# Altium integrated library Lattice CPLD ispMACH.IntLib: 663 symbols (part 40 of 48)
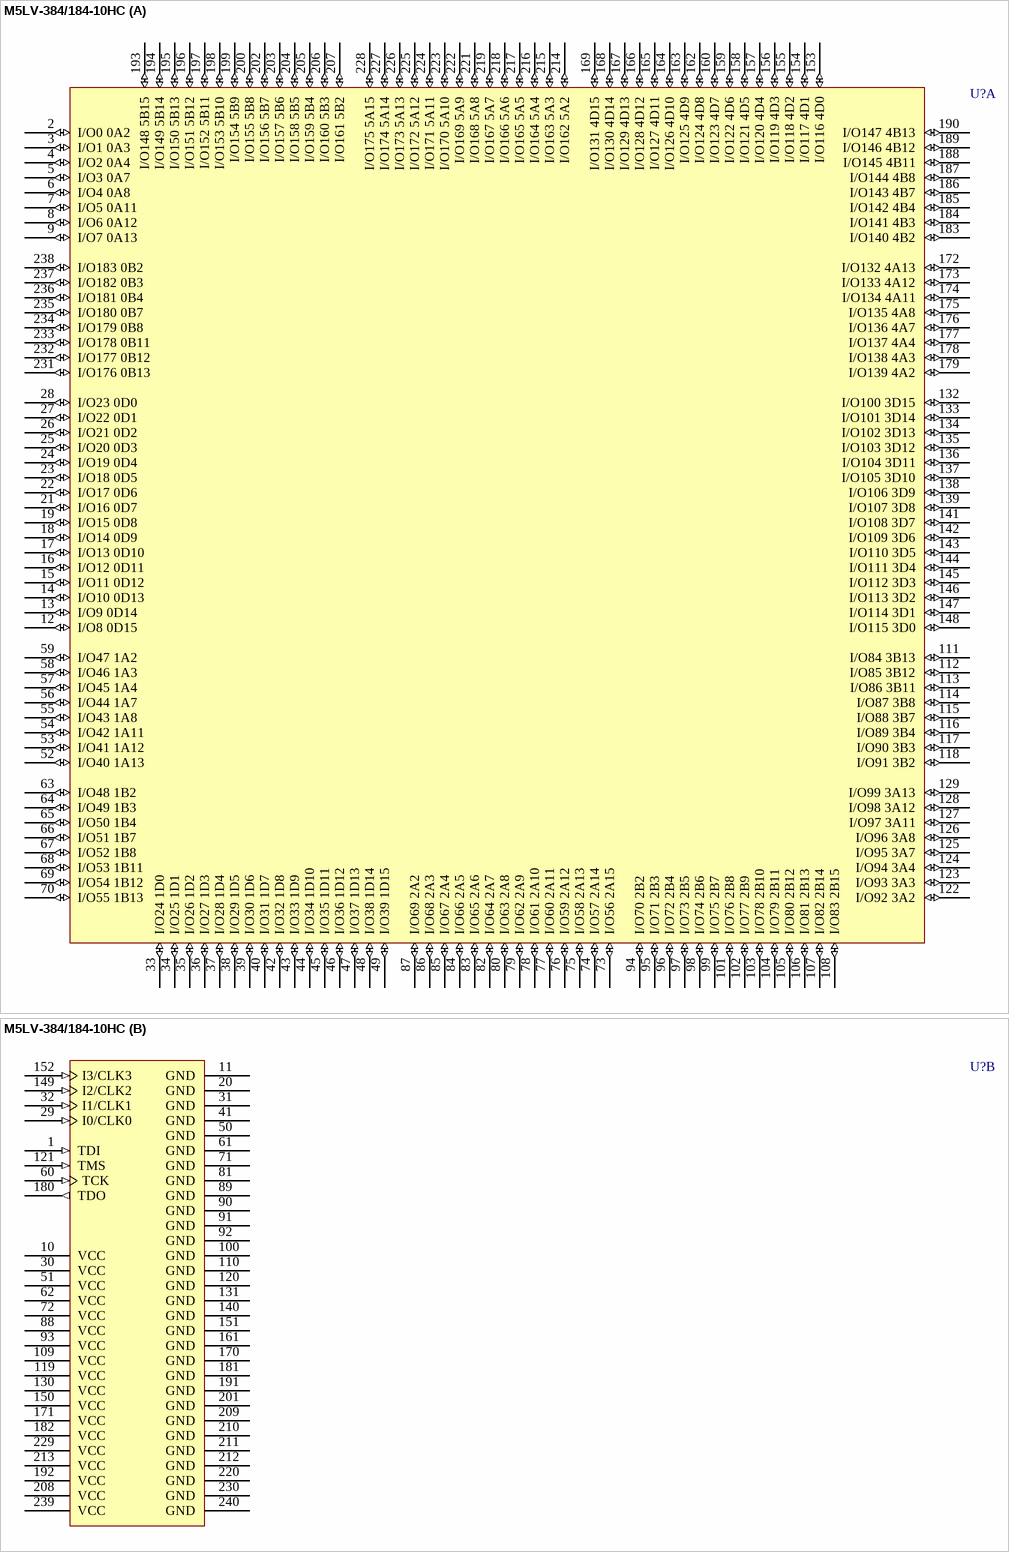
[diagram p345: symbol M5LV-384/184-10HC]

## M5LV-384/184-10HC
designator U?
High-Density and High-I/O Complex PLD; Published: 23-Sep-2002; LatestRevisionDate: 13-Apr-2006; LatestRevisionNote: IPC-7351 Footprint Added.; DatasheetVersion: Sep-2000; PackageVersion: pkg_32, Aug-2005; PackageReference: PQFP240; Publisher: Altium Limited; PackageDescription: 240-Pin Shrink Quad Flat Pack 0.5 mm Pitch; ComponentLink1Description: Manufacturer Link; ComponentLink1URL: http://www.latticesemi.com/products/mature/index.cfm; ComponentLink2Description: Datasheet; ComponentLink2URL: http://www.latticesemi.com/lit/docs/datasheets/cpld/mach5.pdf
footprint PQFP240_N (Shrink QFP, 240-Leads, Body 32x32mm, Pitch 0.5mm, IPC Medium Density)
footprint PQFP240_L (Shrink QFP, 240-Leads, Body 32x32mm, Pitch 0.5mm, IPC High Density)
footprint PQFP240_M (Shrink QFP, 240-Leads, Body 32x32mm, Pitch 0.5mm, IPC Low Density)
3D model M5LV-PQFP240 (240-Pin Shrink Quad Flat Pack 0.5 mm Pitch)
part A pins: 2 I/O0 0A2 (io), 3 I/O1 0A3 (io), 4 I/O2 0A4 (io), 5 I/O3 0A7 (io), 6 I/O4 0A8 (io), 7 I/O5 0A11 (io), 8 I/O6 0A12 (io), 9 I/O7 0A13 (io), 12 I/O8 0D15 (io), 13 I/O9 0D14 (io), 14 I/O10 0D13 (io), 15 I/O11 0D12 (io), 16 I/O12 0D11 (io), 17 I/O13 0D10 (io), 18 I/O14 0D9 (io), 19 I/O15 0D8 (io), 21 I/O16 0D7 (io), 22 I/O17 0D6 (io), 23 I/O18 0D5 (io), 24 I/O19 0D4 (io), 25 I/O20 0D3 (io), 26 I/O21 0D2 (io), 27 I/O22 0D1 (io), 28 I/O23 0D0 (io), 33 I/O24 1D0 (io), 34 I/O25 1D1 (io), 35 I/O26 1D2 (io), 36 I/O27 1D3 (io), 37 I/O28 1D4 (io), 38 I/O29 1D5 (io), 39 I/O30 1D6 (io), 40 I/O31 1D7 (io), 42 I/O32 1D8 (io), 43 I/O33 1D9 (io), 44 I/O34 1D10 (io), 45 I/O35 1D11 (io), 46 I/O36 1D12 (io), 47 I/O37 1D13 (io), 48 I/O38 1D14 (io), 49 I/O39 1D15 (io), 52 I/O40 1A13 (io), 53 I/O41 1A12 (io), 54 I/O42 1A11 (io), 55 I/O43 1A8 (io), 56 I/O44 1A7 (io), 57 I/O45 1A4 (io), 58 I/O46 1A3 (io), 59 I/O47 1A2 (io), 63 I/O48 1B2 (io), 64 I/O49 1B3 (io), 65 I/O50 1B4 (io), 66 I/O51 1B7 (io), 67 I/O52 1B8 (io), 68 I/O53 1B11 (io), 69 I/O54 1B12 (io), 70 I/O55 1B13 (io), 73 I/O56 2A15 (io), 74 I/O57 2A14 (io), 75 I/O58 2A13 (io), 76 I/O59 2A12 (io), 77 I/O60 2A11 (io), 78 I/O61 2A10 (io), 79 I/O62 2A9 (io), 80 I/O63 2A8 (io), 82 I/O64 2A7 (io), 83 I/O65 2A6 (io), 84 I/O66 2A5 (io), 85 I/O67 2A4 (io), 86 I/O68 2A3 (io), 87 I/O69 2A2 (io), 94 I/O70 2B2 (io), 95 I/O71 2B3 (io), 96 I/O72 2B4 (io), 97 I/O73 2B5 (io), 98 I/O74 2B6 (io), 99 I/O75 2B7 (io), 101 I/O76 2B8 (io), 102 I/O77 2B9 (io), 103 I/O78 2B10 (io), 104 I/O79 2B11 (io), 105 I/O80 2B12 (io), 106 I/O81 2B13 (io), 107 I/O82 2B14 (io), 108 I/O83 2B15 (io), 111 I/O84 3B13 (io), 112 I/O85 3B12 (io), 113 I/O86 3B11 (io), 114 I/O87 3B8 (io), 115 I/O88 3B7 (io), 116 I/O89 3B4 (io), 117 I/O90 3B3 (io), 118 I/O91 3B2 (io), 122 I/O92 3A2 (io), 123 I/O93 3A3 (io), 124 I/O94 3A4 (io), 125 I/O95 3A7 (io), 126 I/O96 3A8 (io), 127 I/O97 3A11 (io), 128 I/O98 3A12 (io), 129 I/O99 3A13 (io), 132 I/O100 3D15 (io), 133 I/O101 3D14 (io), 134 I/O102 3D13 (io), 135 I/O103 3D12 (io), 136 I/O104 3D11 (io), 137 I/O105 3D10 (io), 138 I/O106 3D9 (io), 139 I/O107 3D8 (io), 141 I/O108 3D7 (io), 142 I/O109 3D6 (io), 143 I/O110 3D5 (io), 144 I/O111 3D4 (io), 145 I/O112 3D3 (io), 146 I/O113 3D2 (io), 147 I/O114 3D1 (io), 148 I/O115 3D0 (io), 153 I/O116 4D0 (io), 154 I/O117 4D1 (io), 155 I/O118 4D2 (io), 156 I/O119 4D3 (io), 157 I/O120 4D4 (io), 158 I/O121 4D5 (io), 159 I/O122 4D6 (io), 160 I/O123 4D7 (io), 162 I/O124 4D8 (io), 163 I/O125 4D9 (io), 164 I/O126 4D10 (io), 165 I/O127 4D11 (io), 166 I/O128 4D12 (io), 167 I/O129 4D13 (io), 168 I/O130 4D14 (io), 169 I/O131 4D15 (io), 172 I/O132 4A13 (io), 173 I/O133 4A12 (io), 174 I/O134 4A11 (io), 175 I/O135 4A8 (io), 176 I/O136 4A7 (io), 177 I/O137 4A4 (io), 178 I/O138 4A3 (io), 179 I/O139 4A2 (io), 183 I/O140 4B2 (io), 184 I/O141 4B3 (io), 185 I/O142 4B4 (io), 186 I/O143 4B7 (io), 187 I/O144 4B8 (io), 188 I/O145 4B11 (io), 189 I/O146 4B12 (io), 190 I/O147 4B13 (io), 193 I/O148 5B15 (io), 194 I/O149 5B14 (io), 195 I/O150 5B13 (io), 196 I/O151 5B12 (io), 197 I/O152 5B11 (io), 198 I/O153 5B10 (io), 199 I/O154 5B9 (io), 200 I/O155 5B8 (io), 202 I/O156 5B7 (io), 203 I/O157 5B6 (io), 204 I/O158 5B5 (io), 205 I/O159 5B4 (io), 206 I/O160 5B3 (io), 207 I/O161 5B2 (io), 214 I/O162 5A2 (io), 215 I/O163 5A3 (io), 216 I/O164 5A4 (io), 217 I/O165 5A5 (io), 218 I/O166 5A6 (io), 219 I/O167 5A7 (io), 221 I/O168 5A8 (io), 222 I/O169 5A9 (io), 223 I/O170 5A10 (io), 224 I/O171 5A11 (io), 225 I/O172 5A12 (io), 226 I/O173 5A13 (io), 227 I/O174 5A14 (io), 228 I/O175 5A15 (io), 231 I/O176 0B13 (io), 232 I/O177 0B12 (io), 233 I/O178 0B11 (io), 234 I/O179 0B8 (io), 235 I/O180 0B7 (io), 236 I/O181 0B4 (io), 237 I/O182 0B3 (io), 238 I/O183 0B2 (io)
part B pins: 1 TDI (in), 10 VCC (power), 11 GND (power), 20 GND (power), 29 I0/CLK0 (in), 30 VCC (power), 31 GND (power), 32 I1/CLK1 (in), 41 GND (power), 50 GND (power), 51 VCC (power), 60 TCK (in), 61 GND (power), 62 VCC (power), 71 GND (power), 72 VCC (power), 81 GND (power), 88 VCC (power), 89 GND (power), 90 GND (power), 91 GND (power), 92 GND (power), 93 VCC (power), 100 GND (power), 109 VCC (power), 110 GND (power), 119 VCC (power), 120 GND (power), 121 TMS (in), 130 VCC (power), 131 GND (power), 140 GND (power), 149 I2/CLK2 (in), 150 VCC (power), 151 GND (power), 152 I3/CLK3 (in), 161 GND (power), 170 GND (power), 171 VCC (power), 180 TDO (out), 181 GND (power), 182 VCC (power), 191 GND (power), 192 VCC (power), 201 GND (power), 208 VCC (power), 209 GND (power), 210 GND (power), 211 GND (power), 212 GND (power), 213 VCC (power), 220 GND (power), 229 VCC (power), 230 GND (power), 239 VCC (power), 240 GND (power)

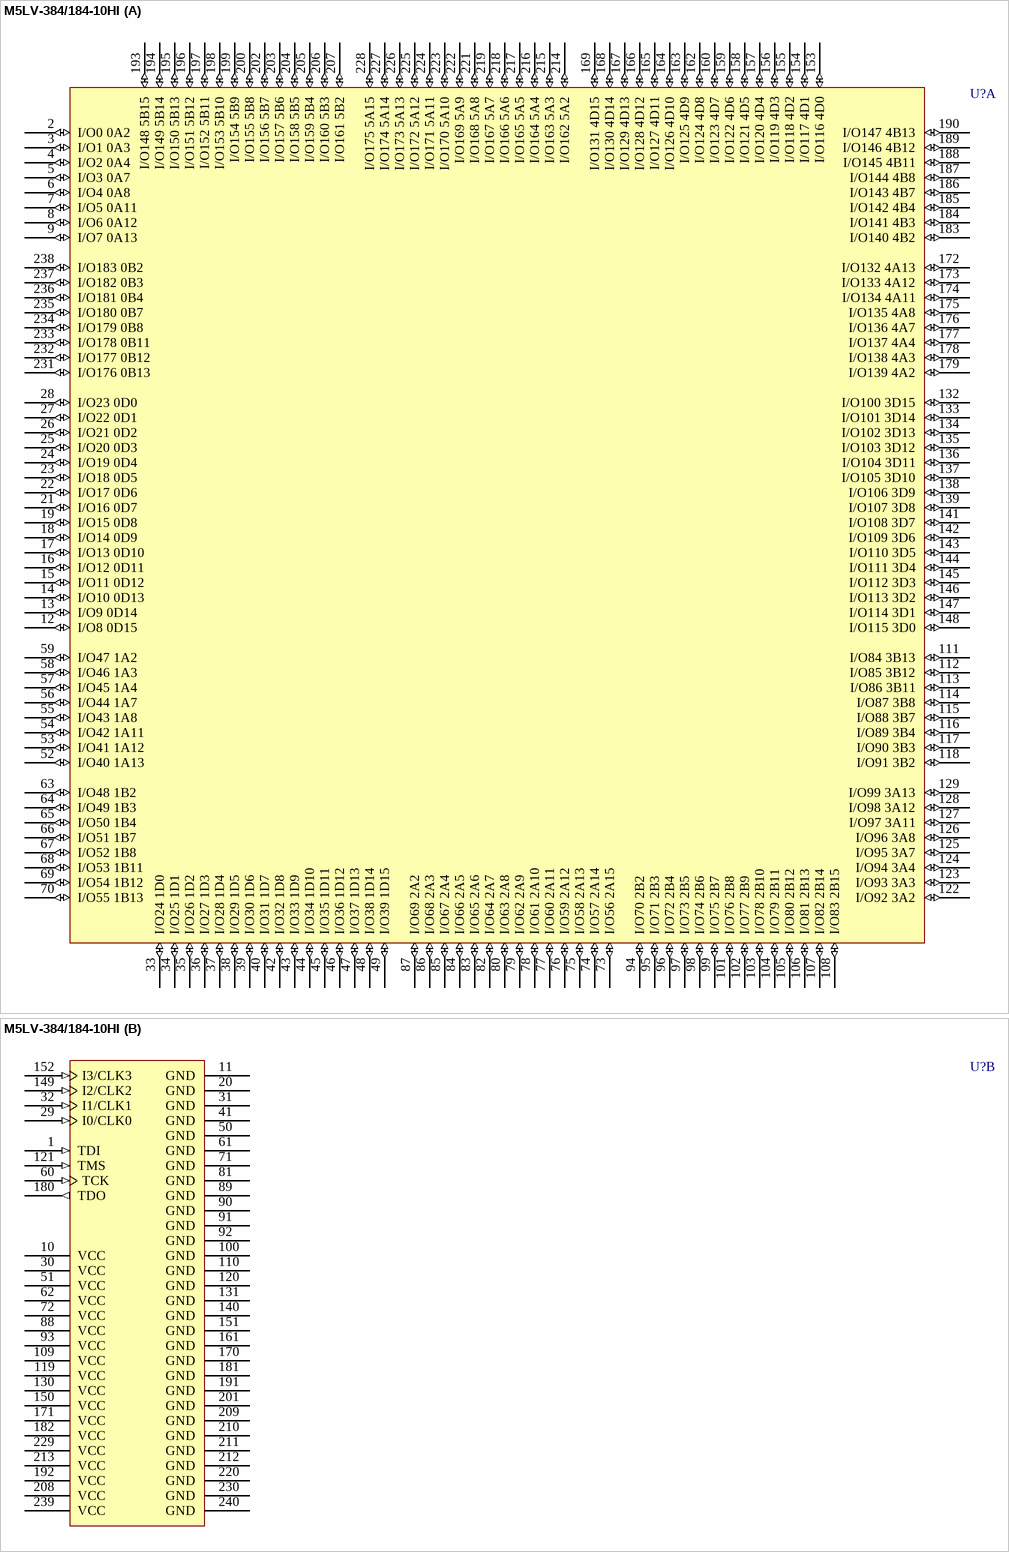
[diagram p245: symbol M5LV-384/184-10HI]

## M5LV-384/184-10HI
designator U?
High-Density and High-I/O Complex PLD; Published: 23-Sep-2002; LatestRevisionDate: 13-Apr-2006; LatestRevisionNote: IPC-7351 Footprint Added.; DatasheetVersion: Sep-2000; PackageVersion: pkg_32, Aug-2005; PackageReference: PQFP240; Publisher: Altium Limited; PackageDescription: 240-Pin Shrink Quad Flat Pack 0.5 mm Pitch; ComponentLink1Description: Manufacturer Link; ComponentLink1URL: http://www.latticesemi.com/products/mature/index.cfm; ComponentLink2Description: Datasheet; ComponentLink2URL: http://www.latticesemi.com/lit/docs/datasheets/cpld/mach5.pdf
footprint PQFP240_N (Shrink QFP, 240-Leads, Body 32x32mm, Pitch 0.5mm, IPC Medium Density)
footprint PQFP240_L (Shrink QFP, 240-Leads, Body 32x32mm, Pitch 0.5mm, IPC High Density)
footprint PQFP240_M (Shrink QFP, 240-Leads, Body 32x32mm, Pitch 0.5mm, IPC Low Density)
3D model M5LV-PQFP240 (240-Pin Shrink Quad Flat Pack 0.5 mm Pitch)
part A pins: 2 I/O0 0A2 (io), 3 I/O1 0A3 (io), 4 I/O2 0A4 (io), 5 I/O3 0A7 (io), 6 I/O4 0A8 (io), 7 I/O5 0A11 (io), 8 I/O6 0A12 (io), 9 I/O7 0A13 (io), 12 I/O8 0D15 (io), 13 I/O9 0D14 (io), 14 I/O10 0D13 (io), 15 I/O11 0D12 (io), 16 I/O12 0D11 (io), 17 I/O13 0D10 (io), 18 I/O14 0D9 (io), 19 I/O15 0D8 (io), 21 I/O16 0D7 (io), 22 I/O17 0D6 (io), 23 I/O18 0D5 (io), 24 I/O19 0D4 (io), 25 I/O20 0D3 (io), 26 I/O21 0D2 (io), 27 I/O22 0D1 (io), 28 I/O23 0D0 (io), 33 I/O24 1D0 (io), 34 I/O25 1D1 (io), 35 I/O26 1D2 (io), 36 I/O27 1D3 (io), 37 I/O28 1D4 (io), 38 I/O29 1D5 (io), 39 I/O30 1D6 (io), 40 I/O31 1D7 (io), 42 I/O32 1D8 (io), 43 I/O33 1D9 (io), 44 I/O34 1D10 (io), 45 I/O35 1D11 (io), 46 I/O36 1D12 (io), 47 I/O37 1D13 (io), 48 I/O38 1D14 (io), 49 I/O39 1D15 (io), 52 I/O40 1A13 (io), 53 I/O41 1A12 (io), 54 I/O42 1A11 (io), 55 I/O43 1A8 (io), 56 I/O44 1A7 (io), 57 I/O45 1A4 (io), 58 I/O46 1A3 (io), 59 I/O47 1A2 (io), 63 I/O48 1B2 (io), 64 I/O49 1B3 (io), 65 I/O50 1B4 (io), 66 I/O51 1B7 (io), 67 I/O52 1B8 (io), 68 I/O53 1B11 (io), 69 I/O54 1B12 (io), 70 I/O55 1B13 (io), 73 I/O56 2A15 (io), 74 I/O57 2A14 (io), 75 I/O58 2A13 (io), 76 I/O59 2A12 (io), 77 I/O60 2A11 (io), 78 I/O61 2A10 (io), 79 I/O62 2A9 (io), 80 I/O63 2A8 (io), 82 I/O64 2A7 (io), 83 I/O65 2A6 (io), 84 I/O66 2A5 (io), 85 I/O67 2A4 (io), 86 I/O68 2A3 (io), 87 I/O69 2A2 (io), 94 I/O70 2B2 (io), 95 I/O71 2B3 (io), 96 I/O72 2B4 (io), 97 I/O73 2B5 (io), 98 I/O74 2B6 (io), 99 I/O75 2B7 (io), 101 I/O76 2B8 (io), 102 I/O77 2B9 (io), 103 I/O78 2B10 (io), 104 I/O79 2B11 (io), 105 I/O80 2B12 (io), 106 I/O81 2B13 (io), 107 I/O82 2B14 (io), 108 I/O83 2B15 (io), 111 I/O84 3B13 (io), 112 I/O85 3B12 (io), 113 I/O86 3B11 (io), 114 I/O87 3B8 (io), 115 I/O88 3B7 (io), 116 I/O89 3B4 (io), 117 I/O90 3B3 (io), 118 I/O91 3B2 (io), 122 I/O92 3A2 (io), 123 I/O93 3A3 (io), 124 I/O94 3A4 (io), 125 I/O95 3A7 (io), 126 I/O96 3A8 (io), 127 I/O97 3A11 (io), 128 I/O98 3A12 (io), 129 I/O99 3A13 (io), 132 I/O100 3D15 (io), 133 I/O101 3D14 (io), 134 I/O102 3D13 (io), 135 I/O103 3D12 (io), 136 I/O104 3D11 (io), 137 I/O105 3D10 (io), 138 I/O106 3D9 (io), 139 I/O107 3D8 (io), 141 I/O108 3D7 (io), 142 I/O109 3D6 (io), 143 I/O110 3D5 (io), 144 I/O111 3D4 (io), 145 I/O112 3D3 (io), 146 I/O113 3D2 (io), 147 I/O114 3D1 (io), 148 I/O115 3D0 (io), 153 I/O116 4D0 (io), 154 I/O117 4D1 (io), 155 I/O118 4D2 (io), 156 I/O119 4D3 (io), 157 I/O120 4D4 (io), 158 I/O121 4D5 (io), 159 I/O122 4D6 (io), 160 I/O123 4D7 (io), 162 I/O124 4D8 (io), 163 I/O125 4D9 (io), 164 I/O126 4D10 (io), 165 I/O127 4D11 (io), 166 I/O128 4D12 (io), 167 I/O129 4D13 (io), 168 I/O130 4D14 (io), 169 I/O131 4D15 (io), 172 I/O132 4A13 (io), 173 I/O133 4A12 (io), 174 I/O134 4A11 (io), 175 I/O135 4A8 (io), 176 I/O136 4A7 (io), 177 I/O137 4A4 (io), 178 I/O138 4A3 (io), 179 I/O139 4A2 (io), 183 I/O140 4B2 (io), 184 I/O141 4B3 (io), 185 I/O142 4B4 (io), 186 I/O143 4B7 (io), 187 I/O144 4B8 (io), 188 I/O145 4B11 (io), 189 I/O146 4B12 (io), 190 I/O147 4B13 (io), 193 I/O148 5B15 (io), 194 I/O149 5B14 (io), 195 I/O150 5B13 (io), 196 I/O151 5B12 (io), 197 I/O152 5B11 (io), 198 I/O153 5B10 (io), 199 I/O154 5B9 (io), 200 I/O155 5B8 (io), 202 I/O156 5B7 (io), 203 I/O157 5B6 (io), 204 I/O158 5B5 (io), 205 I/O159 5B4 (io), 206 I/O160 5B3 (io), 207 I/O161 5B2 (io), 214 I/O162 5A2 (io), 215 I/O163 5A3 (io), 216 I/O164 5A4 (io), 217 I/O165 5A5 (io), 218 I/O166 5A6 (io), 219 I/O167 5A7 (io), 221 I/O168 5A8 (io), 222 I/O169 5A9 (io), 223 I/O170 5A10 (io), 224 I/O171 5A11 (io), 225 I/O172 5A12 (io), 226 I/O173 5A13 (io), 227 I/O174 5A14 (io), 228 I/O175 5A15 (io), 231 I/O176 0B13 (io), 232 I/O177 0B12 (io), 233 I/O178 0B11 (io), 234 I/O179 0B8 (io), 235 I/O180 0B7 (io), 236 I/O181 0B4 (io), 237 I/O182 0B3 (io), 238 I/O183 0B2 (io)
part B pins: 1 TDI (in), 10 VCC (power), 11 GND (power), 20 GND (power), 29 I0/CLK0 (in), 30 VCC (power), 31 GND (power), 32 I1/CLK1 (in), 41 GND (power), 50 GND (power), 51 VCC (power), 60 TCK (in), 61 GND (power), 62 VCC (power), 71 GND (power), 72 VCC (power), 81 GND (power), 88 VCC (power), 89 GND (power), 90 GND (power), 91 GND (power), 92 GND (power), 93 VCC (power), 100 GND (power), 109 VCC (power), 110 GND (power), 119 VCC (power), 120 GND (power), 121 TMS (in), 130 VCC (power), 131 GND (power), 140 GND (power), 149 I2/CLK2 (in), 150 VCC (power), 151 GND (power), 152 I3/CLK3 (in), 161 GND (power), 170 GND (power), 171 VCC (power), 180 TDO (out), 181 GND (power), 182 VCC (power), 191 GND (power), 192 VCC (power), 201 GND (power), 208 VCC (power), 209 GND (power), 210 GND (power), 211 GND (power), 212 GND (power), 213 VCC (power), 220 GND (power), 229 VCC (power), 230 GND (power), 239 VCC (power), 240 GND (power)

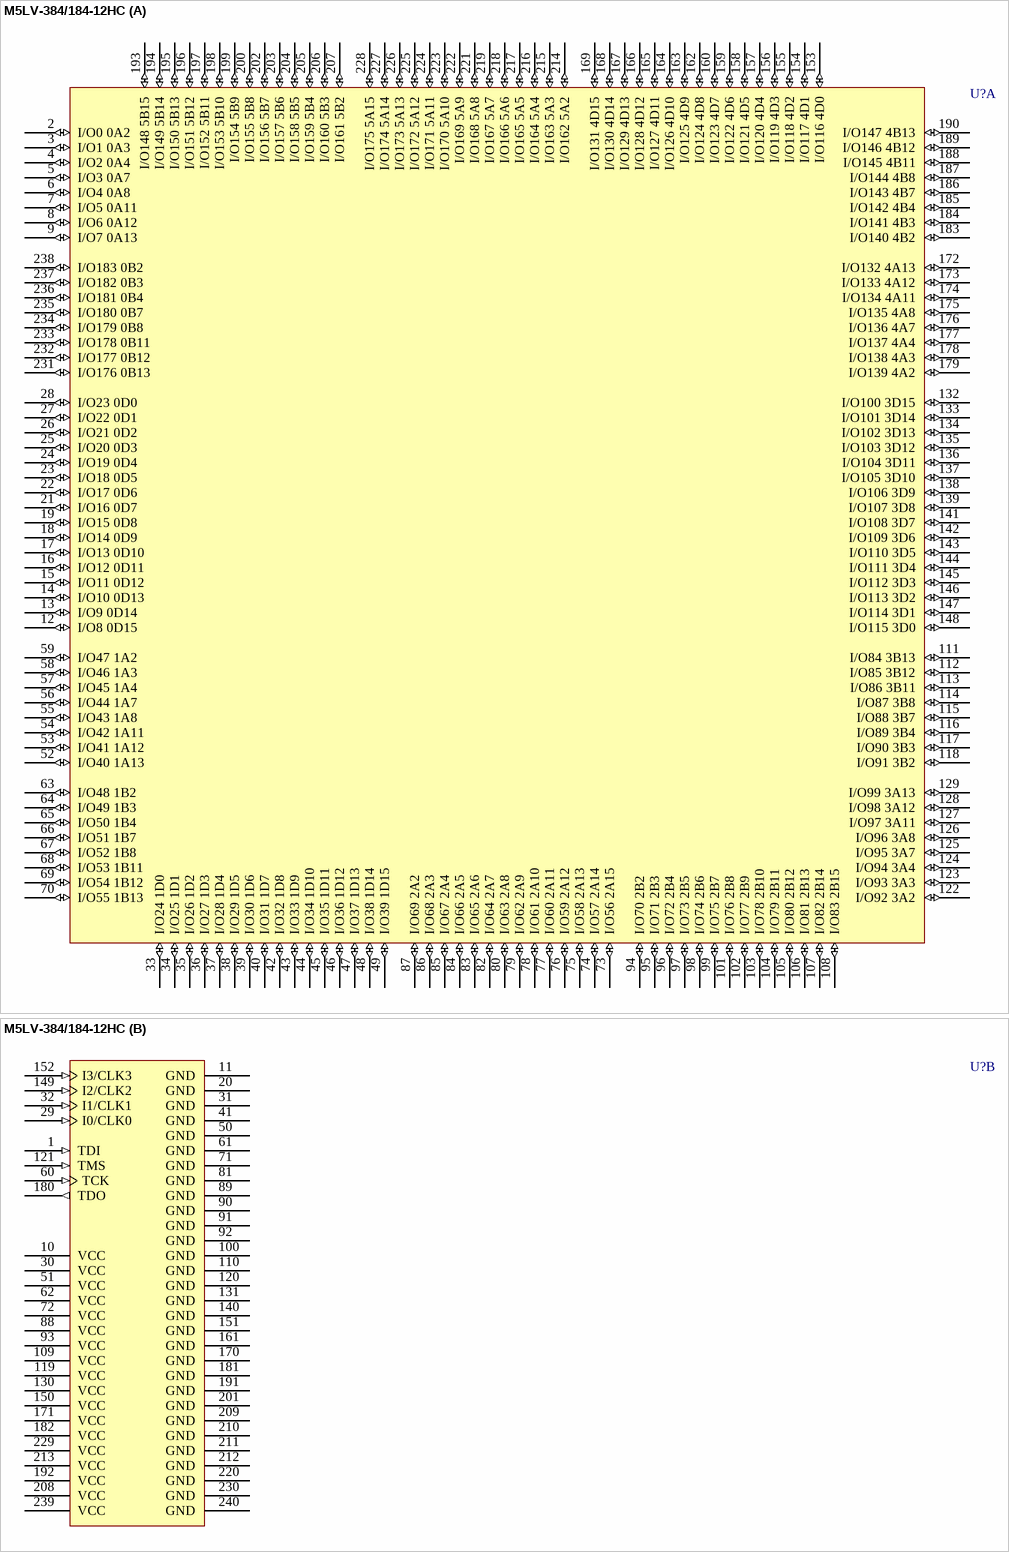
[diagram p246: symbol M5LV-384/184-12HC]

## M5LV-384/184-12HC
designator U?
High-Density and High-I/O Complex PLD; Published: 23-Sep-2002; LatestRevisionDate: 13-Apr-2006; LatestRevisionNote: IPC-7351 Footprint Added.; DatasheetVersion: Sep-2000; PackageVersion: pkg_32, Aug-2005; PackageReference: PQFP240; Publisher: Altium Limited; PackageDescription: 240-Pin Shrink Quad Flat Pack 0.5 mm Pitch; ComponentLink1Description: Manufacturer Link; ComponentLink1URL: http://www.latticesemi.com/products/mature/index.cfm; ComponentLink2Description: Datasheet; ComponentLink2URL: http://www.latticesemi.com/lit/docs/datasheets/cpld/mach5.pdf
footprint PQFP240_N (Shrink QFP, 240-Leads, Body 32x32mm, Pitch 0.5mm, IPC Medium Density)
footprint PQFP240_L (Shrink QFP, 240-Leads, Body 32x32mm, Pitch 0.5mm, IPC High Density)
footprint PQFP240_M (Shrink QFP, 240-Leads, Body 32x32mm, Pitch 0.5mm, IPC Low Density)
3D model M5LV-PQFP240 (240-Pin Shrink Quad Flat Pack 0.5 mm Pitch)
part A pins: 2 I/O0 0A2 (io), 3 I/O1 0A3 (io), 4 I/O2 0A4 (io), 5 I/O3 0A7 (io), 6 I/O4 0A8 (io), 7 I/O5 0A11 (io), 8 I/O6 0A12 (io), 9 I/O7 0A13 (io), 12 I/O8 0D15 (io), 13 I/O9 0D14 (io), 14 I/O10 0D13 (io), 15 I/O11 0D12 (io), 16 I/O12 0D11 (io), 17 I/O13 0D10 (io), 18 I/O14 0D9 (io), 19 I/O15 0D8 (io), 21 I/O16 0D7 (io), 22 I/O17 0D6 (io), 23 I/O18 0D5 (io), 24 I/O19 0D4 (io), 25 I/O20 0D3 (io), 26 I/O21 0D2 (io), 27 I/O22 0D1 (io), 28 I/O23 0D0 (io), 33 I/O24 1D0 (io), 34 I/O25 1D1 (io), 35 I/O26 1D2 (io), 36 I/O27 1D3 (io), 37 I/O28 1D4 (io), 38 I/O29 1D5 (io), 39 I/O30 1D6 (io), 40 I/O31 1D7 (io), 42 I/O32 1D8 (io), 43 I/O33 1D9 (io), 44 I/O34 1D10 (io), 45 I/O35 1D11 (io), 46 I/O36 1D12 (io), 47 I/O37 1D13 (io), 48 I/O38 1D14 (io), 49 I/O39 1D15 (io), 52 I/O40 1A13 (io), 53 I/O41 1A12 (io), 54 I/O42 1A11 (io), 55 I/O43 1A8 (io), 56 I/O44 1A7 (io), 57 I/O45 1A4 (io), 58 I/O46 1A3 (io), 59 I/O47 1A2 (io), 63 I/O48 1B2 (io), 64 I/O49 1B3 (io), 65 I/O50 1B4 (io), 66 I/O51 1B7 (io), 67 I/O52 1B8 (io), 68 I/O53 1B11 (io), 69 I/O54 1B12 (io), 70 I/O55 1B13 (io), 73 I/O56 2A15 (io), 74 I/O57 2A14 (io), 75 I/O58 2A13 (io), 76 I/O59 2A12 (io), 77 I/O60 2A11 (io), 78 I/O61 2A10 (io), 79 I/O62 2A9 (io), 80 I/O63 2A8 (io), 82 I/O64 2A7 (io), 83 I/O65 2A6 (io), 84 I/O66 2A5 (io), 85 I/O67 2A4 (io), 86 I/O68 2A3 (io), 87 I/O69 2A2 (io), 94 I/O70 2B2 (io), 95 I/O71 2B3 (io), 96 I/O72 2B4 (io), 97 I/O73 2B5 (io), 98 I/O74 2B6 (io), 99 I/O75 2B7 (io), 101 I/O76 2B8 (io), 102 I/O77 2B9 (io), 103 I/O78 2B10 (io), 104 I/O79 2B11 (io), 105 I/O80 2B12 (io), 106 I/O81 2B13 (io), 107 I/O82 2B14 (io), 108 I/O83 2B15 (io), 111 I/O84 3B13 (io), 112 I/O85 3B12 (io), 113 I/O86 3B11 (io), 114 I/O87 3B8 (io), 115 I/O88 3B7 (io), 116 I/O89 3B4 (io), 117 I/O90 3B3 (io), 118 I/O91 3B2 (io), 122 I/O92 3A2 (io), 123 I/O93 3A3 (io), 124 I/O94 3A4 (io), 125 I/O95 3A7 (io), 126 I/O96 3A8 (io), 127 I/O97 3A11 (io), 128 I/O98 3A12 (io), 129 I/O99 3A13 (io), 132 I/O100 3D15 (io), 133 I/O101 3D14 (io), 134 I/O102 3D13 (io), 135 I/O103 3D12 (io), 136 I/O104 3D11 (io), 137 I/O105 3D10 (io), 138 I/O106 3D9 (io), 139 I/O107 3D8 (io), 141 I/O108 3D7 (io), 142 I/O109 3D6 (io), 143 I/O110 3D5 (io), 144 I/O111 3D4 (io), 145 I/O112 3D3 (io), 146 I/O113 3D2 (io), 147 I/O114 3D1 (io), 148 I/O115 3D0 (io), 153 I/O116 4D0 (io), 154 I/O117 4D1 (io), 155 I/O118 4D2 (io), 156 I/O119 4D3 (io), 157 I/O120 4D4 (io), 158 I/O121 4D5 (io), 159 I/O122 4D6 (io), 160 I/O123 4D7 (io), 162 I/O124 4D8 (io), 163 I/O125 4D9 (io), 164 I/O126 4D10 (io), 165 I/O127 4D11 (io), 166 I/O128 4D12 (io), 167 I/O129 4D13 (io), 168 I/O130 4D14 (io), 169 I/O131 4D15 (io), 172 I/O132 4A13 (io), 173 I/O133 4A12 (io), 174 I/O134 4A11 (io), 175 I/O135 4A8 (io), 176 I/O136 4A7 (io), 177 I/O137 4A4 (io), 178 I/O138 4A3 (io), 179 I/O139 4A2 (io), 183 I/O140 4B2 (io), 184 I/O141 4B3 (io), 185 I/O142 4B4 (io), 186 I/O143 4B7 (io), 187 I/O144 4B8 (io), 188 I/O145 4B11 (io), 189 I/O146 4B12 (io), 190 I/O147 4B13 (io), 193 I/O148 5B15 (io), 194 I/O149 5B14 (io), 195 I/O150 5B13 (io), 196 I/O151 5B12 (io), 197 I/O152 5B11 (io), 198 I/O153 5B10 (io), 199 I/O154 5B9 (io), 200 I/O155 5B8 (io), 202 I/O156 5B7 (io), 203 I/O157 5B6 (io), 204 I/O158 5B5 (io), 205 I/O159 5B4 (io), 206 I/O160 5B3 (io), 207 I/O161 5B2 (io), 214 I/O162 5A2 (io), 215 I/O163 5A3 (io), 216 I/O164 5A4 (io), 217 I/O165 5A5 (io), 218 I/O166 5A6 (io), 219 I/O167 5A7 (io), 221 I/O168 5A8 (io), 222 I/O169 5A9 (io), 223 I/O170 5A10 (io), 224 I/O171 5A11 (io), 225 I/O172 5A12 (io), 226 I/O173 5A13 (io), 227 I/O174 5A14 (io), 228 I/O175 5A15 (io), 231 I/O176 0B13 (io), 232 I/O177 0B12 (io), 233 I/O178 0B11 (io), 234 I/O179 0B8 (io), 235 I/O180 0B7 (io), 236 I/O181 0B4 (io), 237 I/O182 0B3 (io), 238 I/O183 0B2 (io)
part B pins: 1 TDI (in), 10 VCC (power), 11 GND (power), 20 GND (power), 29 I0/CLK0 (in), 30 VCC (power), 31 GND (power), 32 I1/CLK1 (in), 41 GND (power), 50 GND (power), 51 VCC (power), 60 TCK (in), 61 GND (power), 62 VCC (power), 71 GND (power), 72 VCC (power), 81 GND (power), 88 VCC (power), 89 GND (power), 90 GND (power), 91 GND (power), 92 GND (power), 93 VCC (power), 100 GND (power), 109 VCC (power), 110 GND (power), 119 VCC (power), 120 GND (power), 121 TMS (in), 130 VCC (power), 131 GND (power), 140 GND (power), 149 I2/CLK2 (in), 150 VCC (power), 151 GND (power), 152 I3/CLK3 (in), 161 GND (power), 170 GND (power), 171 VCC (power), 180 TDO (out), 181 GND (power), 182 VCC (power), 191 GND (power), 192 VCC (power), 201 GND (power), 208 VCC (power), 209 GND (power), 210 GND (power), 211 GND (power), 212 GND (power), 213 VCC (power), 220 GND (power), 229 VCC (power), 230 GND (power), 239 VCC (power), 240 GND (power)

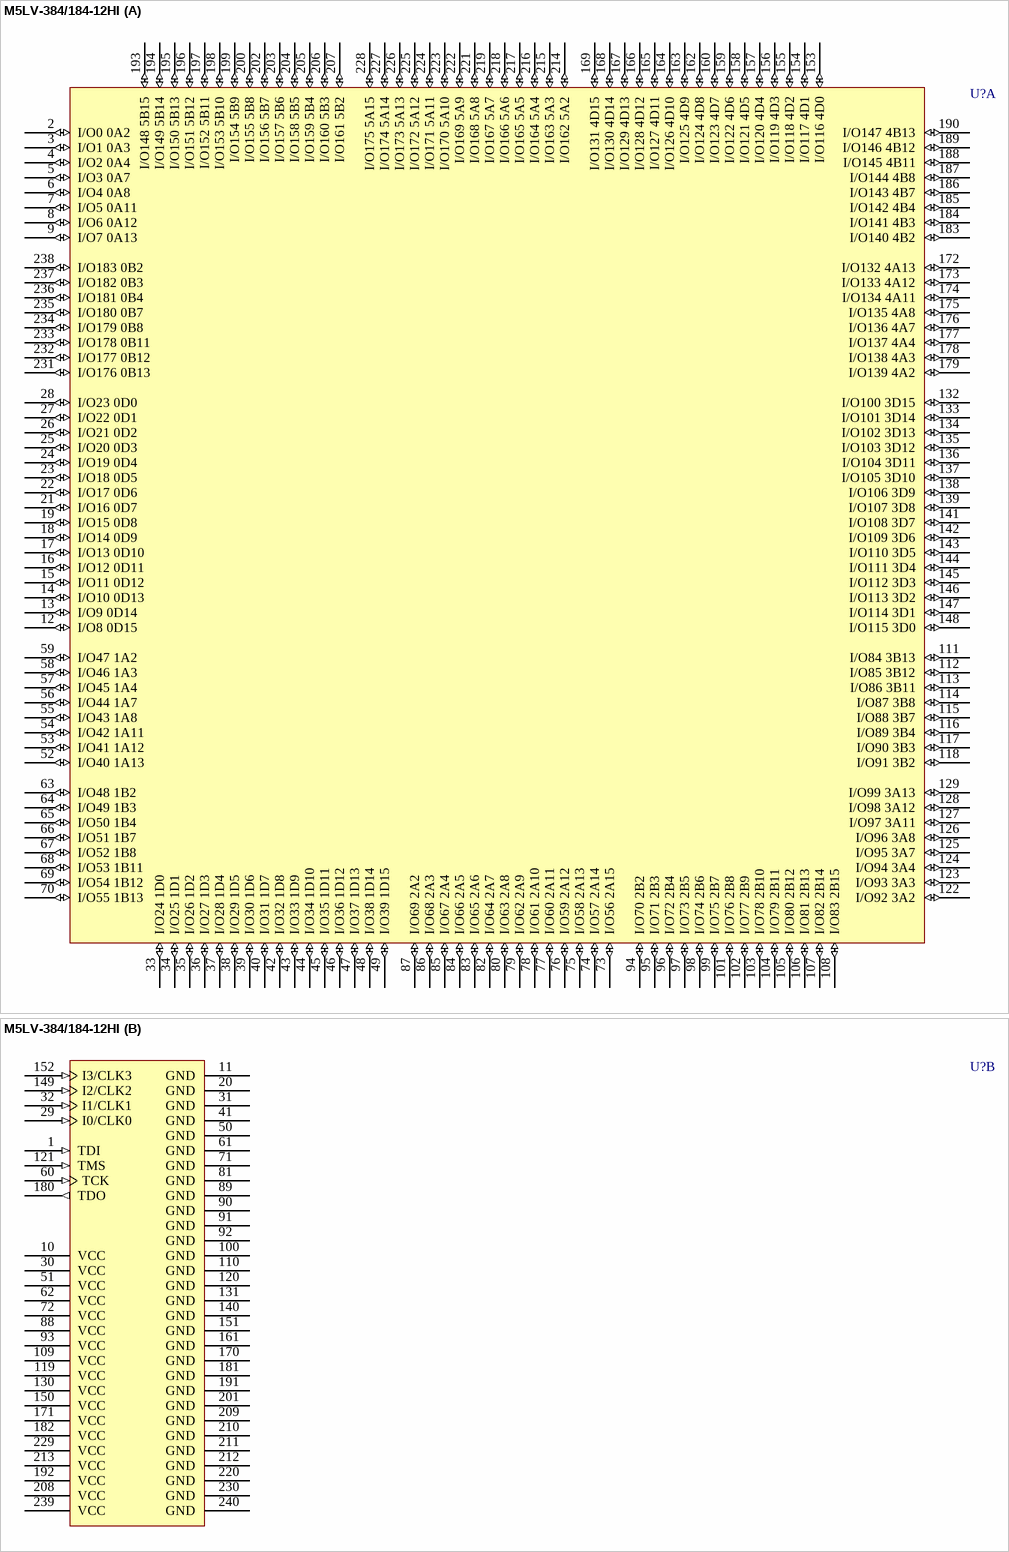
[diagram p247: symbol M5LV-384/184-12HI]

## M5LV-384/184-12HI
designator U?
High-Density and High-I/O Complex PLD; Published: 23-Sep-2002; LatestRevisionDate: 13-Apr-2006; LatestRevisionNote: IPC-7351 Footprint Added.; DatasheetVersion: Sep-2000; PackageVersion: pkg_32, Aug-2005; PackageReference: PQFP240; Publisher: Altium Limited; PackageDescription: 240-Pin Shrink Quad Flat Pack 0.5 mm Pitch; ComponentLink1Description: Manufacturer Link; ComponentLink1URL: http://www.latticesemi.com/products/mature/index.cfm; ComponentLink2Description: Datasheet; ComponentLink2URL: http://www.latticesemi.com/lit/docs/datasheets/cpld/mach5.pdf
footprint PQFP240_N (Shrink QFP, 240-Leads, Body 32x32mm, Pitch 0.5mm, IPC Medium Density)
footprint PQFP240_L (Shrink QFP, 240-Leads, Body 32x32mm, Pitch 0.5mm, IPC High Density)
footprint PQFP240_M (Shrink QFP, 240-Leads, Body 32x32mm, Pitch 0.5mm, IPC Low Density)
3D model M5LV-PQFP240 (240-Pin Shrink Quad Flat Pack 0.5 mm Pitch)
part A pins: 2 I/O0 0A2 (io), 3 I/O1 0A3 (io), 4 I/O2 0A4 (io), 5 I/O3 0A7 (io), 6 I/O4 0A8 (io), 7 I/O5 0A11 (io), 8 I/O6 0A12 (io), 9 I/O7 0A13 (io), 12 I/O8 0D15 (io), 13 I/O9 0D14 (io), 14 I/O10 0D13 (io), 15 I/O11 0D12 (io), 16 I/O12 0D11 (io), 17 I/O13 0D10 (io), 18 I/O14 0D9 (io), 19 I/O15 0D8 (io), 21 I/O16 0D7 (io), 22 I/O17 0D6 (io), 23 I/O18 0D5 (io), 24 I/O19 0D4 (io), 25 I/O20 0D3 (io), 26 I/O21 0D2 (io), 27 I/O22 0D1 (io), 28 I/O23 0D0 (io), 33 I/O24 1D0 (io), 34 I/O25 1D1 (io), 35 I/O26 1D2 (io), 36 I/O27 1D3 (io), 37 I/O28 1D4 (io), 38 I/O29 1D5 (io), 39 I/O30 1D6 (io), 40 I/O31 1D7 (io), 42 I/O32 1D8 (io), 43 I/O33 1D9 (io), 44 I/O34 1D10 (io), 45 I/O35 1D11 (io), 46 I/O36 1D12 (io), 47 I/O37 1D13 (io), 48 I/O38 1D14 (io), 49 I/O39 1D15 (io), 52 I/O40 1A13 (io), 53 I/O41 1A12 (io), 54 I/O42 1A11 (io), 55 I/O43 1A8 (io), 56 I/O44 1A7 (io), 57 I/O45 1A4 (io), 58 I/O46 1A3 (io), 59 I/O47 1A2 (io), 63 I/O48 1B2 (io), 64 I/O49 1B3 (io), 65 I/O50 1B4 (io), 66 I/O51 1B7 (io), 67 I/O52 1B8 (io), 68 I/O53 1B11 (io), 69 I/O54 1B12 (io), 70 I/O55 1B13 (io), 73 I/O56 2A15 (io), 74 I/O57 2A14 (io), 75 I/O58 2A13 (io), 76 I/O59 2A12 (io), 77 I/O60 2A11 (io), 78 I/O61 2A10 (io), 79 I/O62 2A9 (io), 80 I/O63 2A8 (io), 82 I/O64 2A7 (io), 83 I/O65 2A6 (io), 84 I/O66 2A5 (io), 85 I/O67 2A4 (io), 86 I/O68 2A3 (io), 87 I/O69 2A2 (io), 94 I/O70 2B2 (io), 95 I/O71 2B3 (io), 96 I/O72 2B4 (io), 97 I/O73 2B5 (io), 98 I/O74 2B6 (io), 99 I/O75 2B7 (io), 101 I/O76 2B8 (io), 102 I/O77 2B9 (io), 103 I/O78 2B10 (io), 104 I/O79 2B11 (io), 105 I/O80 2B12 (io), 106 I/O81 2B13 (io), 107 I/O82 2B14 (io), 108 I/O83 2B15 (io), 111 I/O84 3B13 (io), 112 I/O85 3B12 (io), 113 I/O86 3B11 (io), 114 I/O87 3B8 (io), 115 I/O88 3B7 (io), 116 I/O89 3B4 (io), 117 I/O90 3B3 (io), 118 I/O91 3B2 (io), 122 I/O92 3A2 (io), 123 I/O93 3A3 (io), 124 I/O94 3A4 (io), 125 I/O95 3A7 (io), 126 I/O96 3A8 (io), 127 I/O97 3A11 (io), 128 I/O98 3A12 (io), 129 I/O99 3A13 (io), 132 I/O100 3D15 (io), 133 I/O101 3D14 (io), 134 I/O102 3D13 (io), 135 I/O103 3D12 (io), 136 I/O104 3D11 (io), 137 I/O105 3D10 (io), 138 I/O106 3D9 (io), 139 I/O107 3D8 (io), 141 I/O108 3D7 (io), 142 I/O109 3D6 (io), 143 I/O110 3D5 (io), 144 I/O111 3D4 (io), 145 I/O112 3D3 (io), 146 I/O113 3D2 (io), 147 I/O114 3D1 (io), 148 I/O115 3D0 (io), 153 I/O116 4D0 (io), 154 I/O117 4D1 (io), 155 I/O118 4D2 (io), 156 I/O119 4D3 (io), 157 I/O120 4D4 (io), 158 I/O121 4D5 (io), 159 I/O122 4D6 (io), 160 I/O123 4D7 (io), 162 I/O124 4D8 (io), 163 I/O125 4D9 (io), 164 I/O126 4D10 (io), 165 I/O127 4D11 (io), 166 I/O128 4D12 (io), 167 I/O129 4D13 (io), 168 I/O130 4D14 (io), 169 I/O131 4D15 (io), 172 I/O132 4A13 (io), 173 I/O133 4A12 (io), 174 I/O134 4A11 (io), 175 I/O135 4A8 (io), 176 I/O136 4A7 (io), 177 I/O137 4A4 (io), 178 I/O138 4A3 (io), 179 I/O139 4A2 (io), 183 I/O140 4B2 (io), 184 I/O141 4B3 (io), 185 I/O142 4B4 (io), 186 I/O143 4B7 (io), 187 I/O144 4B8 (io), 188 I/O145 4B11 (io), 189 I/O146 4B12 (io), 190 I/O147 4B13 (io), 193 I/O148 5B15 (io), 194 I/O149 5B14 (io), 195 I/O150 5B13 (io), 196 I/O151 5B12 (io), 197 I/O152 5B11 (io), 198 I/O153 5B10 (io), 199 I/O154 5B9 (io), 200 I/O155 5B8 (io), 202 I/O156 5B7 (io), 203 I/O157 5B6 (io), 204 I/O158 5B5 (io), 205 I/O159 5B4 (io), 206 I/O160 5B3 (io), 207 I/O161 5B2 (io), 214 I/O162 5A2 (io), 215 I/O163 5A3 (io), 216 I/O164 5A4 (io), 217 I/O165 5A5 (io), 218 I/O166 5A6 (io), 219 I/O167 5A7 (io), 221 I/O168 5A8 (io), 222 I/O169 5A9 (io), 223 I/O170 5A10 (io), 224 I/O171 5A11 (io), 225 I/O172 5A12 (io), 226 I/O173 5A13 (io), 227 I/O174 5A14 (io), 228 I/O175 5A15 (io), 231 I/O176 0B13 (io), 232 I/O177 0B12 (io), 233 I/O178 0B11 (io), 234 I/O179 0B8 (io), 235 I/O180 0B7 (io), 236 I/O181 0B4 (io), 237 I/O182 0B3 (io), 238 I/O183 0B2 (io)
part B pins: 1 TDI (in), 10 VCC (power), 11 GND (power), 20 GND (power), 29 I0/CLK0 (in), 30 VCC (power), 31 GND (power), 32 I1/CLK1 (in), 41 GND (power), 50 GND (power), 51 VCC (power), 60 TCK (in), 61 GND (power), 62 VCC (power), 71 GND (power), 72 VCC (power), 81 GND (power), 88 VCC (power), 89 GND (power), 90 GND (power), 91 GND (power), 92 GND (power), 93 VCC (power), 100 GND (power), 109 VCC (power), 110 GND (power), 119 VCC (power), 120 GND (power), 121 TMS (in), 130 VCC (power), 131 GND (power), 140 GND (power), 149 I2/CLK2 (in), 150 VCC (power), 151 GND (power), 152 I3/CLK3 (in), 161 GND (power), 170 GND (power), 171 VCC (power), 180 TDO (out), 181 GND (power), 182 VCC (power), 191 GND (power), 192 VCC (power), 201 GND (power), 208 VCC (power), 209 GND (power), 210 GND (power), 211 GND (power), 212 GND (power), 213 VCC (power), 220 GND (power), 229 VCC (power), 230 GND (power), 239 VCC (power), 240 GND (power)

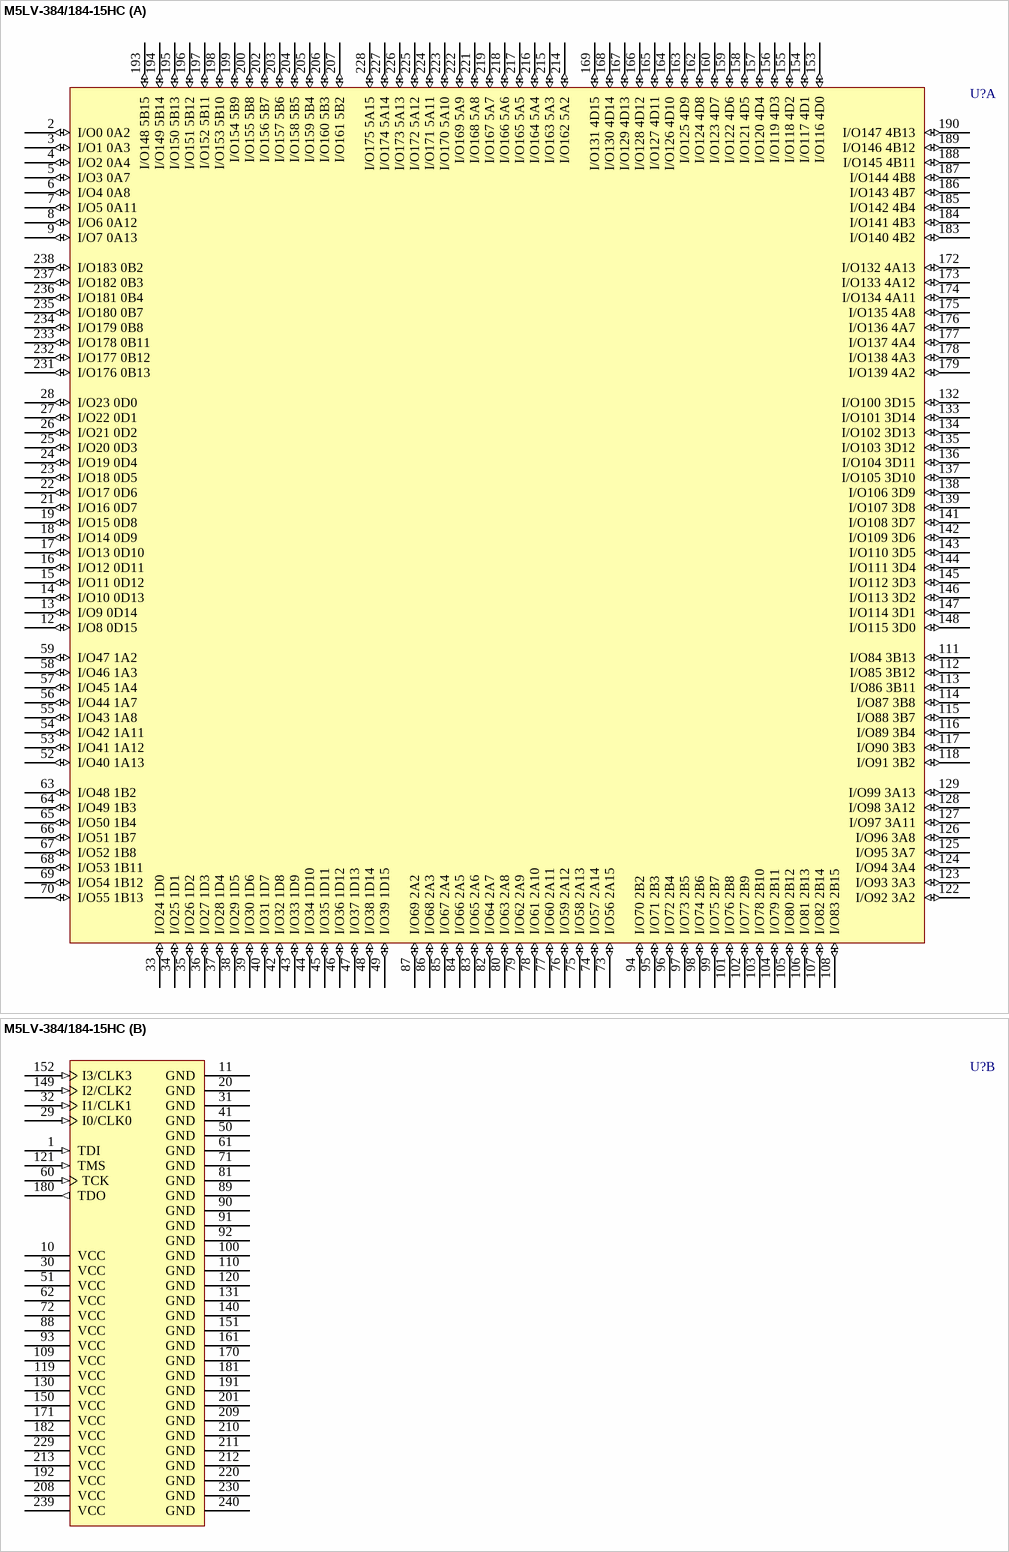
[diagram p248: symbol M5LV-384/184-15HC]

## M5LV-384/184-15HC
designator U?
High-Density and High-I/O Complex PLD; Published: 23-Sep-2002; LatestRevisionDate: 13-Apr-2006; LatestRevisionNote: IPC-7351 Footprint Added.; DatasheetVersion: Sep-2000; PackageVersion: pkg_32, Aug-2005; PackageReference: PQFP240; Publisher: Altium Limited; PackageDescription: 240-Pin Shrink Quad Flat Pack 0.5 mm Pitch; ComponentLink1Description: Manufacturer Link; ComponentLink1URL: http://www.latticesemi.com/products/mature/index.cfm; ComponentLink2Description: Datasheet; ComponentLink2URL: http://www.latticesemi.com/lit/docs/datasheets/cpld/mach5.pdf
footprint PQFP240_N (Shrink QFP, 240-Leads, Body 32x32mm, Pitch 0.5mm, IPC Medium Density)
footprint PQFP240_L (Shrink QFP, 240-Leads, Body 32x32mm, Pitch 0.5mm, IPC High Density)
footprint PQFP240_M (Shrink QFP, 240-Leads, Body 32x32mm, Pitch 0.5mm, IPC Low Density)
3D model M5LV-PQFP240 (240-Pin Shrink Quad Flat Pack 0.5 mm Pitch)
part A pins: 2 I/O0 0A2 (io), 3 I/O1 0A3 (io), 4 I/O2 0A4 (io), 5 I/O3 0A7 (io), 6 I/O4 0A8 (io), 7 I/O5 0A11 (io), 8 I/O6 0A12 (io), 9 I/O7 0A13 (io), 12 I/O8 0D15 (io), 13 I/O9 0D14 (io), 14 I/O10 0D13 (io), 15 I/O11 0D12 (io), 16 I/O12 0D11 (io), 17 I/O13 0D10 (io), 18 I/O14 0D9 (io), 19 I/O15 0D8 (io), 21 I/O16 0D7 (io), 22 I/O17 0D6 (io), 23 I/O18 0D5 (io), 24 I/O19 0D4 (io), 25 I/O20 0D3 (io), 26 I/O21 0D2 (io), 27 I/O22 0D1 (io), 28 I/O23 0D0 (io), 33 I/O24 1D0 (io), 34 I/O25 1D1 (io), 35 I/O26 1D2 (io), 36 I/O27 1D3 (io), 37 I/O28 1D4 (io), 38 I/O29 1D5 (io), 39 I/O30 1D6 (io), 40 I/O31 1D7 (io), 42 I/O32 1D8 (io), 43 I/O33 1D9 (io), 44 I/O34 1D10 (io), 45 I/O35 1D11 (io), 46 I/O36 1D12 (io), 47 I/O37 1D13 (io), 48 I/O38 1D14 (io), 49 I/O39 1D15 (io), 52 I/O40 1A13 (io), 53 I/O41 1A12 (io), 54 I/O42 1A11 (io), 55 I/O43 1A8 (io), 56 I/O44 1A7 (io), 57 I/O45 1A4 (io), 58 I/O46 1A3 (io), 59 I/O47 1A2 (io), 63 I/O48 1B2 (io), 64 I/O49 1B3 (io), 65 I/O50 1B4 (io), 66 I/O51 1B7 (io), 67 I/O52 1B8 (io), 68 I/O53 1B11 (io), 69 I/O54 1B12 (io), 70 I/O55 1B13 (io), 73 I/O56 2A15 (io), 74 I/O57 2A14 (io), 75 I/O58 2A13 (io), 76 I/O59 2A12 (io), 77 I/O60 2A11 (io), 78 I/O61 2A10 (io), 79 I/O62 2A9 (io), 80 I/O63 2A8 (io), 82 I/O64 2A7 (io), 83 I/O65 2A6 (io), 84 I/O66 2A5 (io), 85 I/O67 2A4 (io), 86 I/O68 2A3 (io), 87 I/O69 2A2 (io), 94 I/O70 2B2 (io), 95 I/O71 2B3 (io), 96 I/O72 2B4 (io), 97 I/O73 2B5 (io), 98 I/O74 2B6 (io), 99 I/O75 2B7 (io), 101 I/O76 2B8 (io), 102 I/O77 2B9 (io), 103 I/O78 2B10 (io), 104 I/O79 2B11 (io), 105 I/O80 2B12 (io), 106 I/O81 2B13 (io), 107 I/O82 2B14 (io), 108 I/O83 2B15 (io), 111 I/O84 3B13 (io), 112 I/O85 3B12 (io), 113 I/O86 3B11 (io), 114 I/O87 3B8 (io), 115 I/O88 3B7 (io), 116 I/O89 3B4 (io), 117 I/O90 3B3 (io), 118 I/O91 3B2 (io), 122 I/O92 3A2 (io), 123 I/O93 3A3 (io), 124 I/O94 3A4 (io), 125 I/O95 3A7 (io), 126 I/O96 3A8 (io), 127 I/O97 3A11 (io), 128 I/O98 3A12 (io), 129 I/O99 3A13 (io), 132 I/O100 3D15 (io), 133 I/O101 3D14 (io), 134 I/O102 3D13 (io), 135 I/O103 3D12 (io), 136 I/O104 3D11 (io), 137 I/O105 3D10 (io), 138 I/O106 3D9 (io), 139 I/O107 3D8 (io), 141 I/O108 3D7 (io), 142 I/O109 3D6 (io), 143 I/O110 3D5 (io), 144 I/O111 3D4 (io), 145 I/O112 3D3 (io), 146 I/O113 3D2 (io), 147 I/O114 3D1 (io), 148 I/O115 3D0 (io), 153 I/O116 4D0 (io), 154 I/O117 4D1 (io), 155 I/O118 4D2 (io), 156 I/O119 4D3 (io), 157 I/O120 4D4 (io), 158 I/O121 4D5 (io), 159 I/O122 4D6 (io), 160 I/O123 4D7 (io), 162 I/O124 4D8 (io), 163 I/O125 4D9 (io), 164 I/O126 4D10 (io), 165 I/O127 4D11 (io), 166 I/O128 4D12 (io), 167 I/O129 4D13 (io), 168 I/O130 4D14 (io), 169 I/O131 4D15 (io), 172 I/O132 4A13 (io), 173 I/O133 4A12 (io), 174 I/O134 4A11 (io), 175 I/O135 4A8 (io), 176 I/O136 4A7 (io), 177 I/O137 4A4 (io), 178 I/O138 4A3 (io), 179 I/O139 4A2 (io), 183 I/O140 4B2 (io), 184 I/O141 4B3 (io), 185 I/O142 4B4 (io), 186 I/O143 4B7 (io), 187 I/O144 4B8 (io), 188 I/O145 4B11 (io), 189 I/O146 4B12 (io), 190 I/O147 4B13 (io), 193 I/O148 5B15 (io), 194 I/O149 5B14 (io), 195 I/O150 5B13 (io), 196 I/O151 5B12 (io), 197 I/O152 5B11 (io), 198 I/O153 5B10 (io), 199 I/O154 5B9 (io), 200 I/O155 5B8 (io), 202 I/O156 5B7 (io), 203 I/O157 5B6 (io), 204 I/O158 5B5 (io), 205 I/O159 5B4 (io), 206 I/O160 5B3 (io), 207 I/O161 5B2 (io), 214 I/O162 5A2 (io), 215 I/O163 5A3 (io), 216 I/O164 5A4 (io), 217 I/O165 5A5 (io), 218 I/O166 5A6 (io), 219 I/O167 5A7 (io), 221 I/O168 5A8 (io), 222 I/O169 5A9 (io), 223 I/O170 5A10 (io), 224 I/O171 5A11 (io), 225 I/O172 5A12 (io), 226 I/O173 5A13 (io), 227 I/O174 5A14 (io), 228 I/O175 5A15 (io), 231 I/O176 0B13 (io), 232 I/O177 0B12 (io), 233 I/O178 0B11 (io), 234 I/O179 0B8 (io), 235 I/O180 0B7 (io), 236 I/O181 0B4 (io), 237 I/O182 0B3 (io), 238 I/O183 0B2 (io)
part B pins: 1 TDI (in), 10 VCC (power), 11 GND (power), 20 GND (power), 29 I0/CLK0 (in), 30 VCC (power), 31 GND (power), 32 I1/CLK1 (in), 41 GND (power), 50 GND (power), 51 VCC (power), 60 TCK (in), 61 GND (power), 62 VCC (power), 71 GND (power), 72 VCC (power), 81 GND (power), 88 VCC (power), 89 GND (power), 90 GND (power), 91 GND (power), 92 GND (power), 93 VCC (power), 100 GND (power), 109 VCC (power), 110 GND (power), 119 VCC (power), 120 GND (power), 121 TMS (in), 130 VCC (power), 131 GND (power), 140 GND (power), 149 I2/CLK2 (in), 150 VCC (power), 151 GND (power), 152 I3/CLK3 (in), 161 GND (power), 170 GND (power), 171 VCC (power), 180 TDO (out), 181 GND (power), 182 VCC (power), 191 GND (power), 192 VCC (power), 201 GND (power), 208 VCC (power), 209 GND (power), 210 GND (power), 211 GND (power), 212 GND (power), 213 VCC (power), 220 GND (power), 229 VCC (power), 230 GND (power), 239 VCC (power), 240 GND (power)

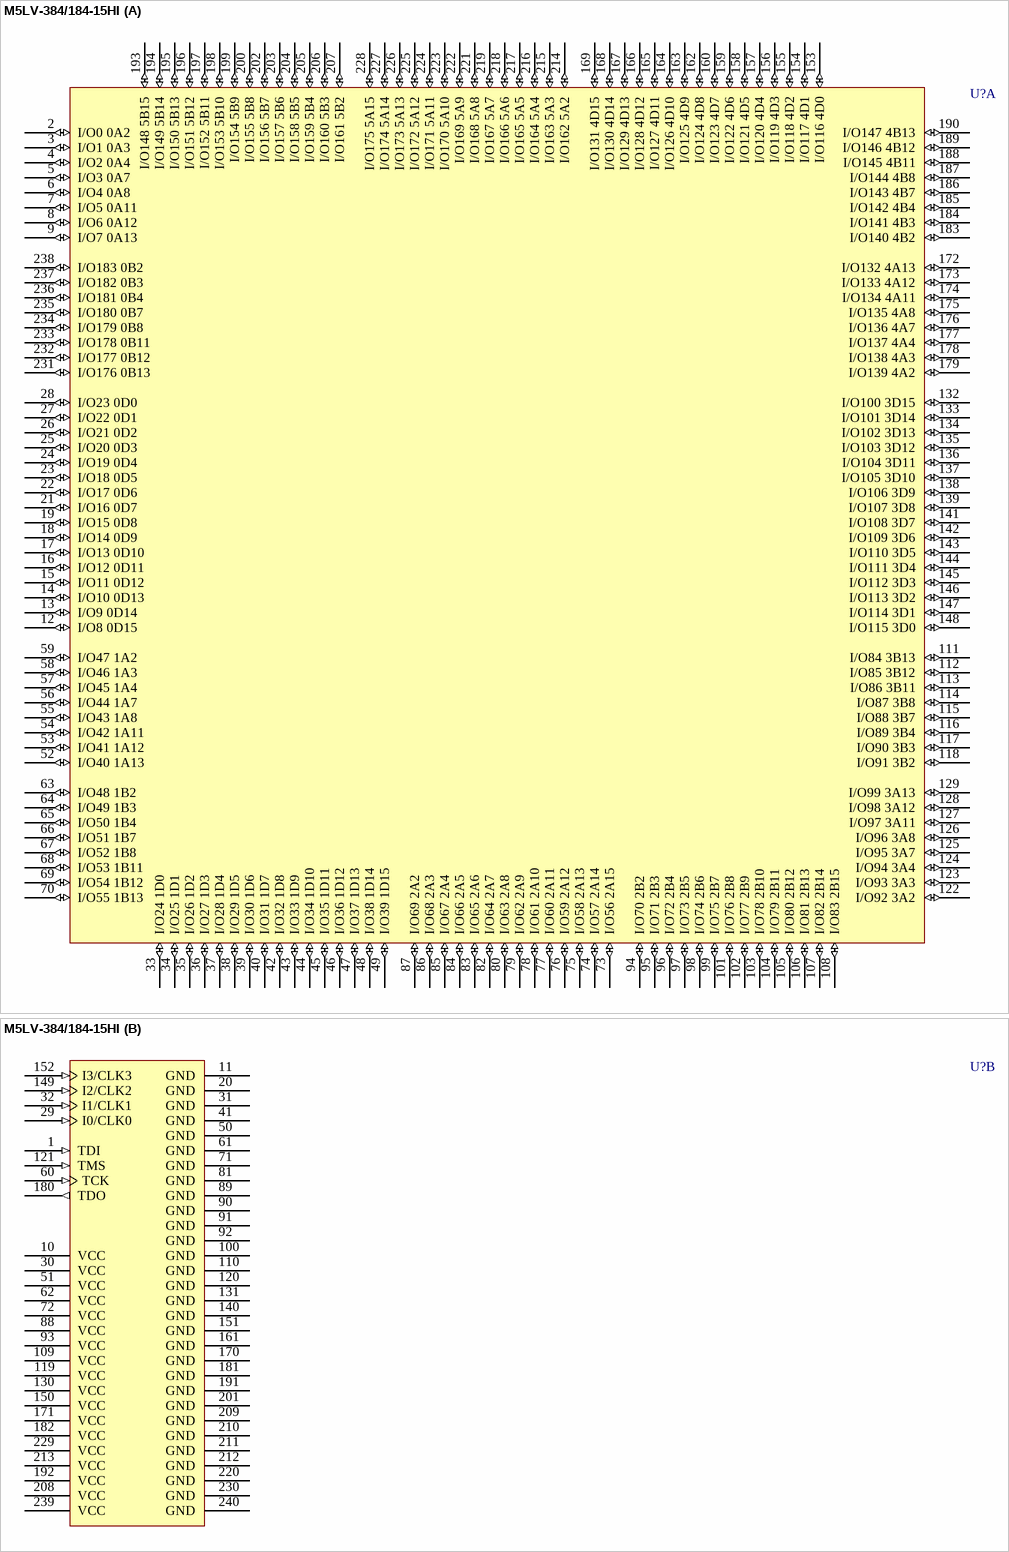
[diagram p249: symbol M5LV-384/184-15HI]

## M5LV-384/184-15HI
designator U?
High-Density and High-I/O Complex PLD; Published: 23-Sep-2002; LatestRevisionDate: 13-Apr-2006; LatestRevisionNote: IPC-7351 Footprint Added.; DatasheetVersion: Sep-2000; PackageVersion: pkg_32, Aug-2005; PackageReference: PQFP240; Publisher: Altium Limited; PackageDescription: 240-Pin Shrink Quad Flat Pack 0.5 mm Pitch; ComponentLink1Description: Manufacturer Link; ComponentLink1URL: http://www.latticesemi.com/products/mature/index.cfm; ComponentLink2Description: Datasheet; ComponentLink2URL: http://www.latticesemi.com/lit/docs/datasheets/cpld/mach5.pdf
footprint PQFP240_N (Shrink QFP, 240-Leads, Body 32x32mm, Pitch 0.5mm, IPC Medium Density)
footprint PQFP240_L (Shrink QFP, 240-Leads, Body 32x32mm, Pitch 0.5mm, IPC High Density)
footprint PQFP240_M (Shrink QFP, 240-Leads, Body 32x32mm, Pitch 0.5mm, IPC Low Density)
3D model M5LV-PQFP240 (240-Pin Shrink Quad Flat Pack 0.5 mm Pitch)
part A pins: 2 I/O0 0A2 (io), 3 I/O1 0A3 (io), 4 I/O2 0A4 (io), 5 I/O3 0A7 (io), 6 I/O4 0A8 (io), 7 I/O5 0A11 (io), 8 I/O6 0A12 (io), 9 I/O7 0A13 (io), 12 I/O8 0D15 (io), 13 I/O9 0D14 (io), 14 I/O10 0D13 (io), 15 I/O11 0D12 (io), 16 I/O12 0D11 (io), 17 I/O13 0D10 (io), 18 I/O14 0D9 (io), 19 I/O15 0D8 (io), 21 I/O16 0D7 (io), 22 I/O17 0D6 (io), 23 I/O18 0D5 (io), 24 I/O19 0D4 (io), 25 I/O20 0D3 (io), 26 I/O21 0D2 (io), 27 I/O22 0D1 (io), 28 I/O23 0D0 (io), 33 I/O24 1D0 (io), 34 I/O25 1D1 (io), 35 I/O26 1D2 (io), 36 I/O27 1D3 (io), 37 I/O28 1D4 (io), 38 I/O29 1D5 (io), 39 I/O30 1D6 (io), 40 I/O31 1D7 (io), 42 I/O32 1D8 (io), 43 I/O33 1D9 (io), 44 I/O34 1D10 (io), 45 I/O35 1D11 (io), 46 I/O36 1D12 (io), 47 I/O37 1D13 (io), 48 I/O38 1D14 (io), 49 I/O39 1D15 (io), 52 I/O40 1A13 (io), 53 I/O41 1A12 (io), 54 I/O42 1A11 (io), 55 I/O43 1A8 (io), 56 I/O44 1A7 (io), 57 I/O45 1A4 (io), 58 I/O46 1A3 (io), 59 I/O47 1A2 (io), 63 I/O48 1B2 (io), 64 I/O49 1B3 (io), 65 I/O50 1B4 (io), 66 I/O51 1B7 (io), 67 I/O52 1B8 (io), 68 I/O53 1B11 (io), 69 I/O54 1B12 (io), 70 I/O55 1B13 (io), 73 I/O56 2A15 (io), 74 I/O57 2A14 (io), 75 I/O58 2A13 (io), 76 I/O59 2A12 (io), 77 I/O60 2A11 (io), 78 I/O61 2A10 (io), 79 I/O62 2A9 (io), 80 I/O63 2A8 (io), 82 I/O64 2A7 (io), 83 I/O65 2A6 (io), 84 I/O66 2A5 (io), 85 I/O67 2A4 (io), 86 I/O68 2A3 (io), 87 I/O69 2A2 (io), 94 I/O70 2B2 (io), 95 I/O71 2B3 (io), 96 I/O72 2B4 (io), 97 I/O73 2B5 (io), 98 I/O74 2B6 (io), 99 I/O75 2B7 (io), 101 I/O76 2B8 (io), 102 I/O77 2B9 (io), 103 I/O78 2B10 (io), 104 I/O79 2B11 (io), 105 I/O80 2B12 (io), 106 I/O81 2B13 (io), 107 I/O82 2B14 (io), 108 I/O83 2B15 (io), 111 I/O84 3B13 (io), 112 I/O85 3B12 (io), 113 I/O86 3B11 (io), 114 I/O87 3B8 (io), 115 I/O88 3B7 (io), 116 I/O89 3B4 (io), 117 I/O90 3B3 (io), 118 I/O91 3B2 (io), 122 I/O92 3A2 (io), 123 I/O93 3A3 (io), 124 I/O94 3A4 (io), 125 I/O95 3A7 (io), 126 I/O96 3A8 (io), 127 I/O97 3A11 (io), 128 I/O98 3A12 (io), 129 I/O99 3A13 (io), 132 I/O100 3D15 (io), 133 I/O101 3D14 (io), 134 I/O102 3D13 (io), 135 I/O103 3D12 (io), 136 I/O104 3D11 (io), 137 I/O105 3D10 (io), 138 I/O106 3D9 (io), 139 I/O107 3D8 (io), 141 I/O108 3D7 (io), 142 I/O109 3D6 (io), 143 I/O110 3D5 (io), 144 I/O111 3D4 (io), 145 I/O112 3D3 (io), 146 I/O113 3D2 (io), 147 I/O114 3D1 (io), 148 I/O115 3D0 (io), 153 I/O116 4D0 (io), 154 I/O117 4D1 (io), 155 I/O118 4D2 (io), 156 I/O119 4D3 (io), 157 I/O120 4D4 (io), 158 I/O121 4D5 (io), 159 I/O122 4D6 (io), 160 I/O123 4D7 (io), 162 I/O124 4D8 (io), 163 I/O125 4D9 (io), 164 I/O126 4D10 (io), 165 I/O127 4D11 (io), 166 I/O128 4D12 (io), 167 I/O129 4D13 (io), 168 I/O130 4D14 (io), 169 I/O131 4D15 (io), 172 I/O132 4A13 (io), 173 I/O133 4A12 (io), 174 I/O134 4A11 (io), 175 I/O135 4A8 (io), 176 I/O136 4A7 (io), 177 I/O137 4A4 (io), 178 I/O138 4A3 (io), 179 I/O139 4A2 (io), 183 I/O140 4B2 (io), 184 I/O141 4B3 (io), 185 I/O142 4B4 (io), 186 I/O143 4B7 (io), 187 I/O144 4B8 (io), 188 I/O145 4B11 (io), 189 I/O146 4B12 (io), 190 I/O147 4B13 (io), 193 I/O148 5B15 (io), 194 I/O149 5B14 (io), 195 I/O150 5B13 (io), 196 I/O151 5B12 (io), 197 I/O152 5B11 (io), 198 I/O153 5B10 (io), 199 I/O154 5B9 (io), 200 I/O155 5B8 (io), 202 I/O156 5B7 (io), 203 I/O157 5B6 (io), 204 I/O158 5B5 (io), 205 I/O159 5B4 (io), 206 I/O160 5B3 (io), 207 I/O161 5B2 (io), 214 I/O162 5A2 (io), 215 I/O163 5A3 (io), 216 I/O164 5A4 (io), 217 I/O165 5A5 (io), 218 I/O166 5A6 (io), 219 I/O167 5A7 (io), 221 I/O168 5A8 (io), 222 I/O169 5A9 (io), 223 I/O170 5A10 (io), 224 I/O171 5A11 (io), 225 I/O172 5A12 (io), 226 I/O173 5A13 (io), 227 I/O174 5A14 (io), 228 I/O175 5A15 (io), 231 I/O176 0B13 (io), 232 I/O177 0B12 (io), 233 I/O178 0B11 (io), 234 I/O179 0B8 (io), 235 I/O180 0B7 (io), 236 I/O181 0B4 (io), 237 I/O182 0B3 (io), 238 I/O183 0B2 (io)
part B pins: 1 TDI (in), 10 VCC (power), 11 GND (power), 20 GND (power), 29 I0/CLK0 (in), 30 VCC (power), 31 GND (power), 32 I1/CLK1 (in), 41 GND (power), 50 GND (power), 51 VCC (power), 60 TCK (in), 61 GND (power), 62 VCC (power), 71 GND (power), 72 VCC (power), 81 GND (power), 88 VCC (power), 89 GND (power), 90 GND (power), 91 GND (power), 92 GND (power), 93 VCC (power), 100 GND (power), 109 VCC (power), 110 GND (power), 119 VCC (power), 120 GND (power), 121 TMS (in), 130 VCC (power), 131 GND (power), 140 GND (power), 149 I2/CLK2 (in), 150 VCC (power), 151 GND (power), 152 I3/CLK3 (in), 161 GND (power), 170 GND (power), 171 VCC (power), 180 TDO (out), 181 GND (power), 182 VCC (power), 191 GND (power), 192 VCC (power), 201 GND (power), 208 VCC (power), 209 GND (power), 210 GND (power), 211 GND (power), 212 GND (power), 213 VCC (power), 220 GND (power), 229 VCC (power), 230 GND (power), 239 VCC (power), 240 GND (power)

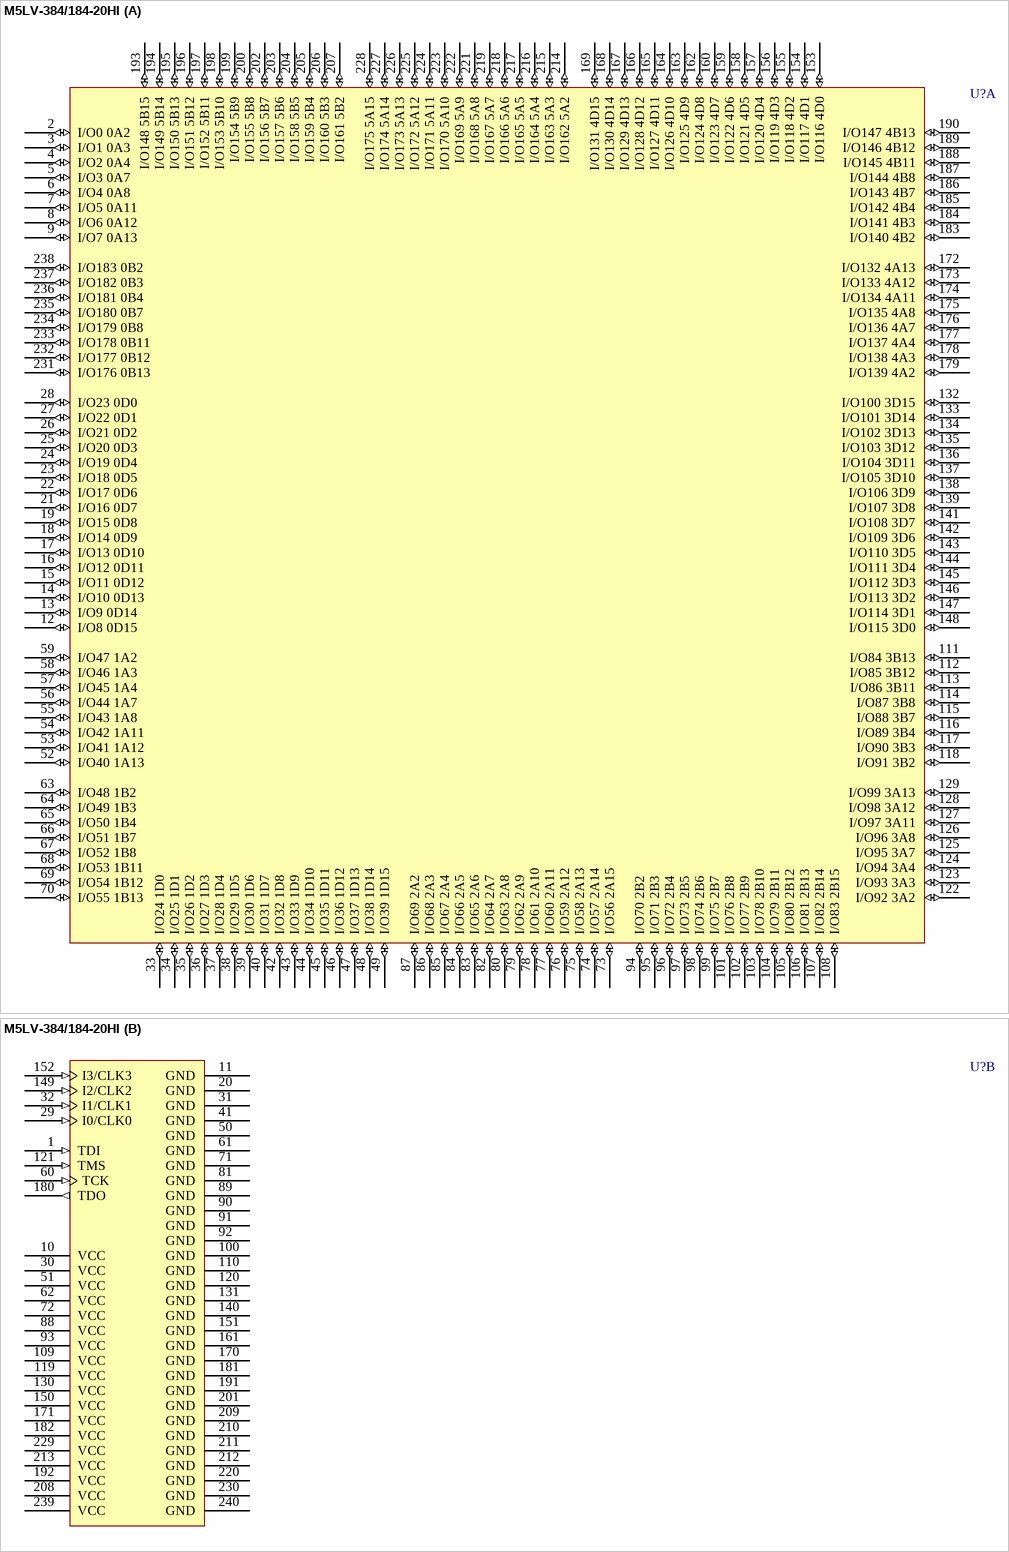
[diagram p250: symbol M5LV-384/184-20HI]

## M5LV-384/184-20HI
designator U?
High-Density and High-I/O Complex PLD; Published: 23-Sep-2002; LatestRevisionDate: 13-Apr-2006; LatestRevisionNote: IPC-7351 Footprint Added.; DatasheetVersion: Sep-2000; PackageVersion: pkg_32, Aug-2005; PackageReference: PQFP240; Publisher: Altium Limited; PackageDescription: 240-Pin Shrink Quad Flat Pack 0.5 mm Pitch; ComponentLink1Description: Manufacturer Link; ComponentLink1URL: http://www.latticesemi.com/products/mature/index.cfm; ComponentLink2Description: Datasheet; ComponentLink2URL: http://www.latticesemi.com/lit/docs/datasheets/cpld/mach5.pdf
footprint PQFP240_N (Shrink QFP, 240-Leads, Body 32x32mm, Pitch 0.5mm, IPC Medium Density)
footprint PQFP240_L (Shrink QFP, 240-Leads, Body 32x32mm, Pitch 0.5mm, IPC High Density)
footprint PQFP240_M (Shrink QFP, 240-Leads, Body 32x32mm, Pitch 0.5mm, IPC Low Density)
3D model M5LV-PQFP240 (240-Pin Shrink Quad Flat Pack 0.5 mm Pitch)
part A pins: 2 I/O0 0A2 (io), 3 I/O1 0A3 (io), 4 I/O2 0A4 (io), 5 I/O3 0A7 (io), 6 I/O4 0A8 (io), 7 I/O5 0A11 (io), 8 I/O6 0A12 (io), 9 I/O7 0A13 (io), 12 I/O8 0D15 (io), 13 I/O9 0D14 (io), 14 I/O10 0D13 (io), 15 I/O11 0D12 (io), 16 I/O12 0D11 (io), 17 I/O13 0D10 (io), 18 I/O14 0D9 (io), 19 I/O15 0D8 (io), 21 I/O16 0D7 (io), 22 I/O17 0D6 (io), 23 I/O18 0D5 (io), 24 I/O19 0D4 (io), 25 I/O20 0D3 (io), 26 I/O21 0D2 (io), 27 I/O22 0D1 (io), 28 I/O23 0D0 (io), 33 I/O24 1D0 (io), 34 I/O25 1D1 (io), 35 I/O26 1D2 (io), 36 I/O27 1D3 (io), 37 I/O28 1D4 (io), 38 I/O29 1D5 (io), 39 I/O30 1D6 (io), 40 I/O31 1D7 (io), 42 I/O32 1D8 (io), 43 I/O33 1D9 (io), 44 I/O34 1D10 (io), 45 I/O35 1D11 (io), 46 I/O36 1D12 (io), 47 I/O37 1D13 (io), 48 I/O38 1D14 (io), 49 I/O39 1D15 (io), 52 I/O40 1A13 (io), 53 I/O41 1A12 (io), 54 I/O42 1A11 (io), 55 I/O43 1A8 (io), 56 I/O44 1A7 (io), 57 I/O45 1A4 (io), 58 I/O46 1A3 (io), 59 I/O47 1A2 (io), 63 I/O48 1B2 (io), 64 I/O49 1B3 (io), 65 I/O50 1B4 (io), 66 I/O51 1B7 (io), 67 I/O52 1B8 (io), 68 I/O53 1B11 (io), 69 I/O54 1B12 (io), 70 I/O55 1B13 (io), 73 I/O56 2A15 (io), 74 I/O57 2A14 (io), 75 I/O58 2A13 (io), 76 I/O59 2A12 (io), 77 I/O60 2A11 (io), 78 I/O61 2A10 (io), 79 I/O62 2A9 (io), 80 I/O63 2A8 (io), 82 I/O64 2A7 (io), 83 I/O65 2A6 (io), 84 I/O66 2A5 (io), 85 I/O67 2A4 (io), 86 I/O68 2A3 (io), 87 I/O69 2A2 (io), 94 I/O70 2B2 (io), 95 I/O71 2B3 (io), 96 I/O72 2B4 (io), 97 I/O73 2B5 (io), 98 I/O74 2B6 (io), 99 I/O75 2B7 (io), 101 I/O76 2B8 (io), 102 I/O77 2B9 (io), 103 I/O78 2B10 (io), 104 I/O79 2B11 (io), 105 I/O80 2B12 (io), 106 I/O81 2B13 (io), 107 I/O82 2B14 (io), 108 I/O83 2B15 (io), 111 I/O84 3B13 (io), 112 I/O85 3B12 (io), 113 I/O86 3B11 (io), 114 I/O87 3B8 (io), 115 I/O88 3B7 (io), 116 I/O89 3B4 (io), 117 I/O90 3B3 (io), 118 I/O91 3B2 (io), 122 I/O92 3A2 (io), 123 I/O93 3A3 (io), 124 I/O94 3A4 (io), 125 I/O95 3A7 (io), 126 I/O96 3A8 (io), 127 I/O97 3A11 (io), 128 I/O98 3A12 (io), 129 I/O99 3A13 (io), 132 I/O100 3D15 (io), 133 I/O101 3D14 (io), 134 I/O102 3D13 (io), 135 I/O103 3D12 (io), 136 I/O104 3D11 (io), 137 I/O105 3D10 (io), 138 I/O106 3D9 (io), 139 I/O107 3D8 (io), 141 I/O108 3D7 (io), 142 I/O109 3D6 (io), 143 I/O110 3D5 (io), 144 I/O111 3D4 (io), 145 I/O112 3D3 (io), 146 I/O113 3D2 (io), 147 I/O114 3D1 (io), 148 I/O115 3D0 (io), 153 I/O116 4D0 (io), 154 I/O117 4D1 (io), 155 I/O118 4D2 (io), 156 I/O119 4D3 (io), 157 I/O120 4D4 (io), 158 I/O121 4D5 (io), 159 I/O122 4D6 (io), 160 I/O123 4D7 (io), 162 I/O124 4D8 (io), 163 I/O125 4D9 (io), 164 I/O126 4D10 (io), 165 I/O127 4D11 (io), 166 I/O128 4D12 (io), 167 I/O129 4D13 (io), 168 I/O130 4D14 (io), 169 I/O131 4D15 (io), 172 I/O132 4A13 (io), 173 I/O133 4A12 (io), 174 I/O134 4A11 (io), 175 I/O135 4A8 (io), 176 I/O136 4A7 (io), 177 I/O137 4A4 (io), 178 I/O138 4A3 (io), 179 I/O139 4A2 (io), 183 I/O140 4B2 (io), 184 I/O141 4B3 (io), 185 I/O142 4B4 (io), 186 I/O143 4B7 (io), 187 I/O144 4B8 (io), 188 I/O145 4B11 (io), 189 I/O146 4B12 (io), 190 I/O147 4B13 (io), 193 I/O148 5B15 (io), 194 I/O149 5B14 (io), 195 I/O150 5B13 (io), 196 I/O151 5B12 (io), 197 I/O152 5B11 (io), 198 I/O153 5B10 (io), 199 I/O154 5B9 (io), 200 I/O155 5B8 (io), 202 I/O156 5B7 (io), 203 I/O157 5B6 (io), 204 I/O158 5B5 (io), 205 I/O159 5B4 (io), 206 I/O160 5B3 (io), 207 I/O161 5B2 (io), 214 I/O162 5A2 (io), 215 I/O163 5A3 (io), 216 I/O164 5A4 (io), 217 I/O165 5A5 (io), 218 I/O166 5A6 (io), 219 I/O167 5A7 (io), 221 I/O168 5A8 (io), 222 I/O169 5A9 (io), 223 I/O170 5A10 (io), 224 I/O171 5A11 (io), 225 I/O172 5A12 (io), 226 I/O173 5A13 (io), 227 I/O174 5A14 (io), 228 I/O175 5A15 (io), 231 I/O176 0B13 (io), 232 I/O177 0B12 (io), 233 I/O178 0B11 (io), 234 I/O179 0B8 (io), 235 I/O180 0B7 (io), 236 I/O181 0B4 (io), 237 I/O182 0B3 (io), 238 I/O183 0B2 (io)
part B pins: 1 TDI (in), 10 VCC (power), 11 GND (power), 20 GND (power), 29 I0/CLK0 (in), 30 VCC (power), 31 GND (power), 32 I1/CLK1 (in), 41 GND (power), 50 GND (power), 51 VCC (power), 60 TCK (in), 61 GND (power), 62 VCC (power), 71 GND (power), 72 VCC (power), 81 GND (power), 88 VCC (power), 89 GND (power), 90 GND (power), 91 GND (power), 92 GND (power), 93 VCC (power), 100 GND (power), 109 VCC (power), 110 GND (power), 119 VCC (power), 120 GND (power), 121 TMS (in), 130 VCC (power), 131 GND (power), 140 GND (power), 149 I2/CLK2 (in), 150 VCC (power), 151 GND (power), 152 I3/CLK3 (in), 161 GND (power), 170 GND (power), 171 VCC (power), 180 TDO (out), 181 GND (power), 182 VCC (power), 191 GND (power), 192 VCC (power), 201 GND (power), 208 VCC (power), 209 GND (power), 210 GND (power), 211 GND (power), 212 GND (power), 213 VCC (power), 220 GND (power), 229 VCC (power), 230 GND (power), 239 VCC (power), 240 GND (power)

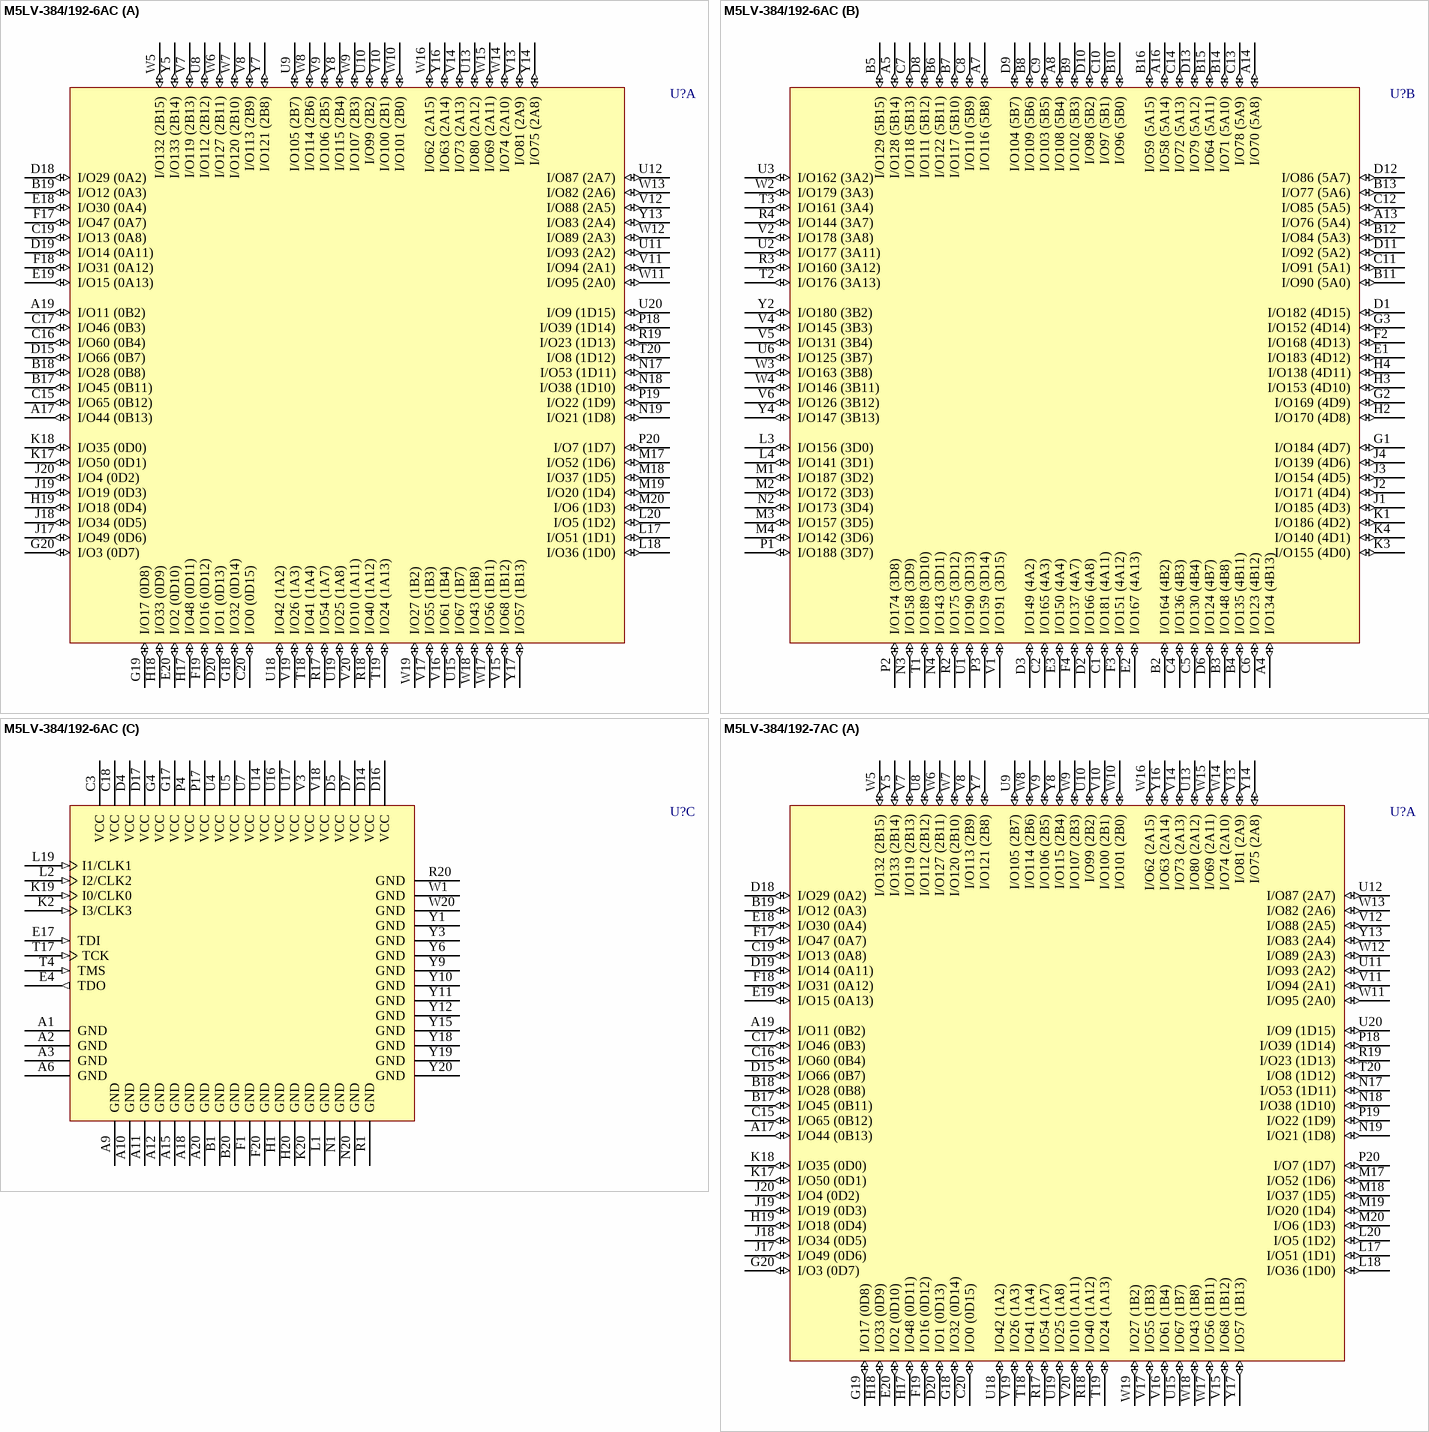
[diagram p251: symbols M5LV-384/192-6AC to M5LV-384/192-7AC]

## M5LV-384/192-6AC
designator U?
High-Density and High-I/O Complex PLD; Published: 23-Sep-2002; LatestRevisionDate: 13-Apr-2006; LatestRevisionNote: IPC-7351 Footprint Added.; DatasheetVersion: Sep-2000; PackageVersion: pkg_32, Aug-2005; PackageReference: SBGA256; Publisher: Altium Limited; PackageDescription: 256-Ball Super Ball Grid Array (SBGA256); ComponentLink1Description: Manufacturer Link; ComponentLink1URL: http://www.latticesemi.com/products/mature/index.cfm; ComponentLink2Description: Datasheet; ComponentLink2URL: http://www.latticesemi.com/lit/docs/datasheets/cpld/mach5.pdf
footprint SBGA256 (BGA, 256-Leads, Body 27x27mm, Pitch 1.27mm)
3D model M5LV-SBGA256 (256-Ball Super Ball Grid Array (SBGA256))
part A pins: A17 I/O44 (0B13) (io), A19 I/O11 (0B2) (io), B17 I/O45 (0B11) (io), B18 I/O28 (0B8) (io), B19 I/O12 (0A3) (io), C15 I/O65 (0B12) (io), C16 I/O60 (0B4) (io), C17 I/O46 (0B3) (io), C19 I/O13 (0A8) (io), C20 I/O0 (0D15) (io), D15 I/O66 (0B7) (io), D18 I/O29 (0A2) (io), D19 I/O14 (0A11) (io), D20 I/O1 (0D13) (io), E18 I/O30 (0A4) (io), E19 I/O15 (0A13) (io), E20 I/O2 (0D10) (io), F17 I/O47 (0A7) (io), F18 I/O31 (0A12) (io), F19 I/O16 (0D12) (io), G18 I/O32 (0D14) (io), G19 I/O17 (0D8) (io), G20 I/O3 (0D7) (io), H17 I/O48 (0D11) (io), H18 I/O33 (0D9) (io), H19 I/O18 (0D4) (io), J17 I/O49 (0D6) (io), J18 I/O34 (0D5) (io), J19 I/O19 (0D3) (io), J20 I/O4 (0D2) (io), K17 I/O50 (0D1) (io), K18 I/O35 (0D0) (io), L17 I/O51 (1D1) (io), L18 I/O36 (1D0) (io), L20 I/O5 (1D2) (io), M17 I/O52 (1D6) (io), M18 I/O37 (1D5) (io), M19 I/O20 (1D4) (io), M20 I/O6 (1D3) (io), N17 I/O53 (1D11) (io), N18 I/O38 (1D10) (io), N19 I/O21 (1D8) (io), P18 I/O39 (1D14) (io), P19 I/O22 (1D9) (io), P20 I/O7 (1D7) (io), R17 I/O54 (1A7) (io), R18 I/O40 (1A12) (io), R19 I/O23 (1D13) (io), T18 I/O41 (1A4) (io), T19 I/O24 (1A13) (io), T20 I/O8 (1D12) (io), U8 I/O112 (2B12) (io), U9 I/O105 (2B7) (io), U10 I/O99 (2B2) (io), U11 I/O93 (2A2) (io), U12 I/O87 (2A7) (io), U13 I/O80 (2A12) (io), U15 I/O67 (1B7) (io), U18 I/O42 (1A2) (io), U19 I/O25 (1A8) (io), U20 I/O9 (1D15) (io), V7 I/O119 (2B13) (io), V8 I/O113 (2B9) (io), V9 I/O106 (2B5) (io), V10 I/O100 (2B1) (io), V11 I/O94 (2A1) (io), V12 I/O88 (2A5) (io), V13 I/O81 (2A9) (io), V14 I/O73 (2A13) (io), V15 I/O68 (1B12) (io), V16 I/O61 (1B4) (io), V17 I/O55 (1B3) (io), V19 I/O26 (1A3) (io), V20 I/O10 (1A11) (io), W5 I/O132 (2B15) (io), W6 I/O127 (2B11) (io), W7 I/O120 (2B10) (io), W8 I/O114 (2B6) (io), W9 I/O107 (2B3) (io), W10 I/O101 (2B0) (io), W11 I/O95 (2A0) (io), W12 I/O89 (2A3) (io), W13 I/O82 (2A6) (io), W14 I/O74 (2A10) (io), W15 I/O69 (2A11) (io), W16 I/O62 (2A15) (io), W17 I/O56 (1B11) (io), W18 I/O43 (1B8) (io), W19 I/O27 (1B2) (io), Y5 I/O133 (2B14) (io), Y7 I/O121 (2B8) (io), Y8 I/O115 (2B4) (io), Y13 I/O83 (2A4) (io), Y14 I/O75 (2A8) (io), Y16 I/O63 (2A14) (io), Y17 I/O57 (1B13) (io)
part B pins: A4 I/O134 (4B13) (io), A5 I/O128 (5B14) (io), A7 I/O116 (5B8) (io), A8 I/O108 (5B4) (io), A13 I/O76 (5A4) (io), A14 I/O70 (5A8) (io), A16 I/O58 (5A14) (io), B2 I/O164 (4B2) (io), B3 I/O148 (4B8) (io), B4 I/O135 (4B11) (io), B5 I/O129 (5B15) (io), B6 I/O122 (5B11) (io), B7 I/O117 (5B10) (io), B8 I/O109 (5B6) (io), B9 I/O102 (5B3) (io), B10 I/O96 (5B0) (io), B11 I/O90 (5A0) (io), B12 I/O84 (5A3) (io), B13 I/O77 (5A6) (io), B14 I/O71 (5A10) (io), B15 I/O64 (5A11) (io), B16 I/O59 (5A15) (io), C1 I/O181 (4A11) (io), C2 I/O165 (4A3) (io), C4 I/O136 (4B3) (io), C5 I/O130 (4B4) (io), C6 I/O123 (4B12) (io), C7 I/O118 (5B13) (io), C8 I/O110 (5B9) (io), C9 I/O103 (5B5) (io), C10 I/O97 (5B1) (io), C11 I/O91 (5A1) (io), C12 I/O85 (5A5) (io), C13 I/O78 (5A9) (io), C14 I/O72 (5A13) (io), D1 I/O182 (4D15) (io), D2 I/O166 (4A8) (io), D3 I/O149 (4A2) (io), D6 I/O124 (4B7) (io), D8 I/O111 (5B12) (io), D9 I/O104 (5B7) (io), D10 I/O98 (5B2) (io), D11 I/O92 (5A2) (io), D12 I/O86 (5A7) (io), D13 I/O79 (5A12) (io), E1 I/O183 (4D12) (io), E2 I/O167 (4A13) (io), E3 I/O150 (4A4) (io), F2 I/O168 (4D13) (io), F3 I/O151 (4A12) (io), F4 I/O137 (4A7) (io), G1 I/O184 (4D7) (io), G2 I/O169 (4D9) (io), G3 I/O152 (4D14) (io), H2 I/O170 (4D8) (io), H3 I/O153 (4D10) (io), H4 I/O138 (4D11) (io), J1 I/O185 (4D3) (io), J2 I/O171 (4D4) (io), J3 I/O154 (4D5) (io), J4 I/O139 (4D6) (io), K1 I/O186 (4D2) (io), K3 I/O155 (4D0) (io), K4 I/O140 (4D1) (io), L3 I/O156 (3D0) (io), L4 I/O141 (3D1) (io), M1 I/O187 (3D2) (io), M2 I/O172 (3D3) (io), M3 I/O157 (3D5) (io), M4 I/O142 (3D6) (io), N2 I/O173 (3D4) (io), N3 I/O158 (3D9) (io), N4 I/O143 (3D11) (io), P1 I/O188 (3D7) (io), P2 I/O174 (3D8) (io), P3 I/O159 (3D14) (io), R2 I/O175 (3D12) (io), R3 I/O160 (3A12) (io), R4 I/O144 (3A7) (io), T1 I/O189 (3D10) (io), T2 I/O176 (3A13) (io), T3 I/O161 (3A4) (io), U1 I/O190 (3D13) (io), U2 I/O177 (3A11) (io), U3 I/O162 (3A2) (io), U6 I/O125 (3B7) (io), V1 I/O191 (3D15) (io), V2 I/O178 (3A8) (io), V4 I/O145 (3B3) (io), V5 I/O131 (3B4) (io), V6 I/O126 (3B12) (io), W2 I/O179 (3A3) (io), W3 I/O163 (3B8) (io), W4 I/O146 (3B11) (io), Y2 I/O180 (3B2) (io), Y4 I/O147 (3B13) (io)
part C pins: A1 GND (power), A2 GND (power), A3 GND (power), A6 GND (power), A9 GND (power), A10 GND (power), A11 GND (power), A12 GND (power), A15 GND (power), A18 GND (power), A20 GND (power), B1 GND (power), B20 GND (power), C3 VCC (power), C18 VCC (power), D4 VCC (power), D5 VCC (power), D7 VCC (power), D14 VCC (power), D16 VCC (power), D17 VCC (power), E4 TDO (out), E17 TDI (in), F1 GND (power), F20 GND (power), G4 VCC (power), G17 VCC (power), H1 GND (power), H20 GND (power), K2 I3/CLK3 (in), K19 I0/CLK0 (in), K20 GND (power), L1 GND (power), L2 I2/CLK2 (in), L19 I1/CLK1 (in), N1 GND (power), N20 GND (power), P4 VCC (power), P17 VCC (power), R1 GND (power), R20 GND (power), T4 TMS (in), T17 TCK (in), U4 VCC (power), U5 VCC (power), U7 VCC (power), U14 VCC (power), U16 VCC (power), U17 VCC (power), V3 VCC (power), V18 VCC (power), W1 GND (power), W20 GND (power), Y1 GND (power), Y3 GND (power), Y6 GND (power), Y9 GND (power), Y10 GND (power), Y11 GND (power), Y12 GND (power), Y15 GND (power), Y18 GND (power), Y19 GND (power), Y20 GND (power)

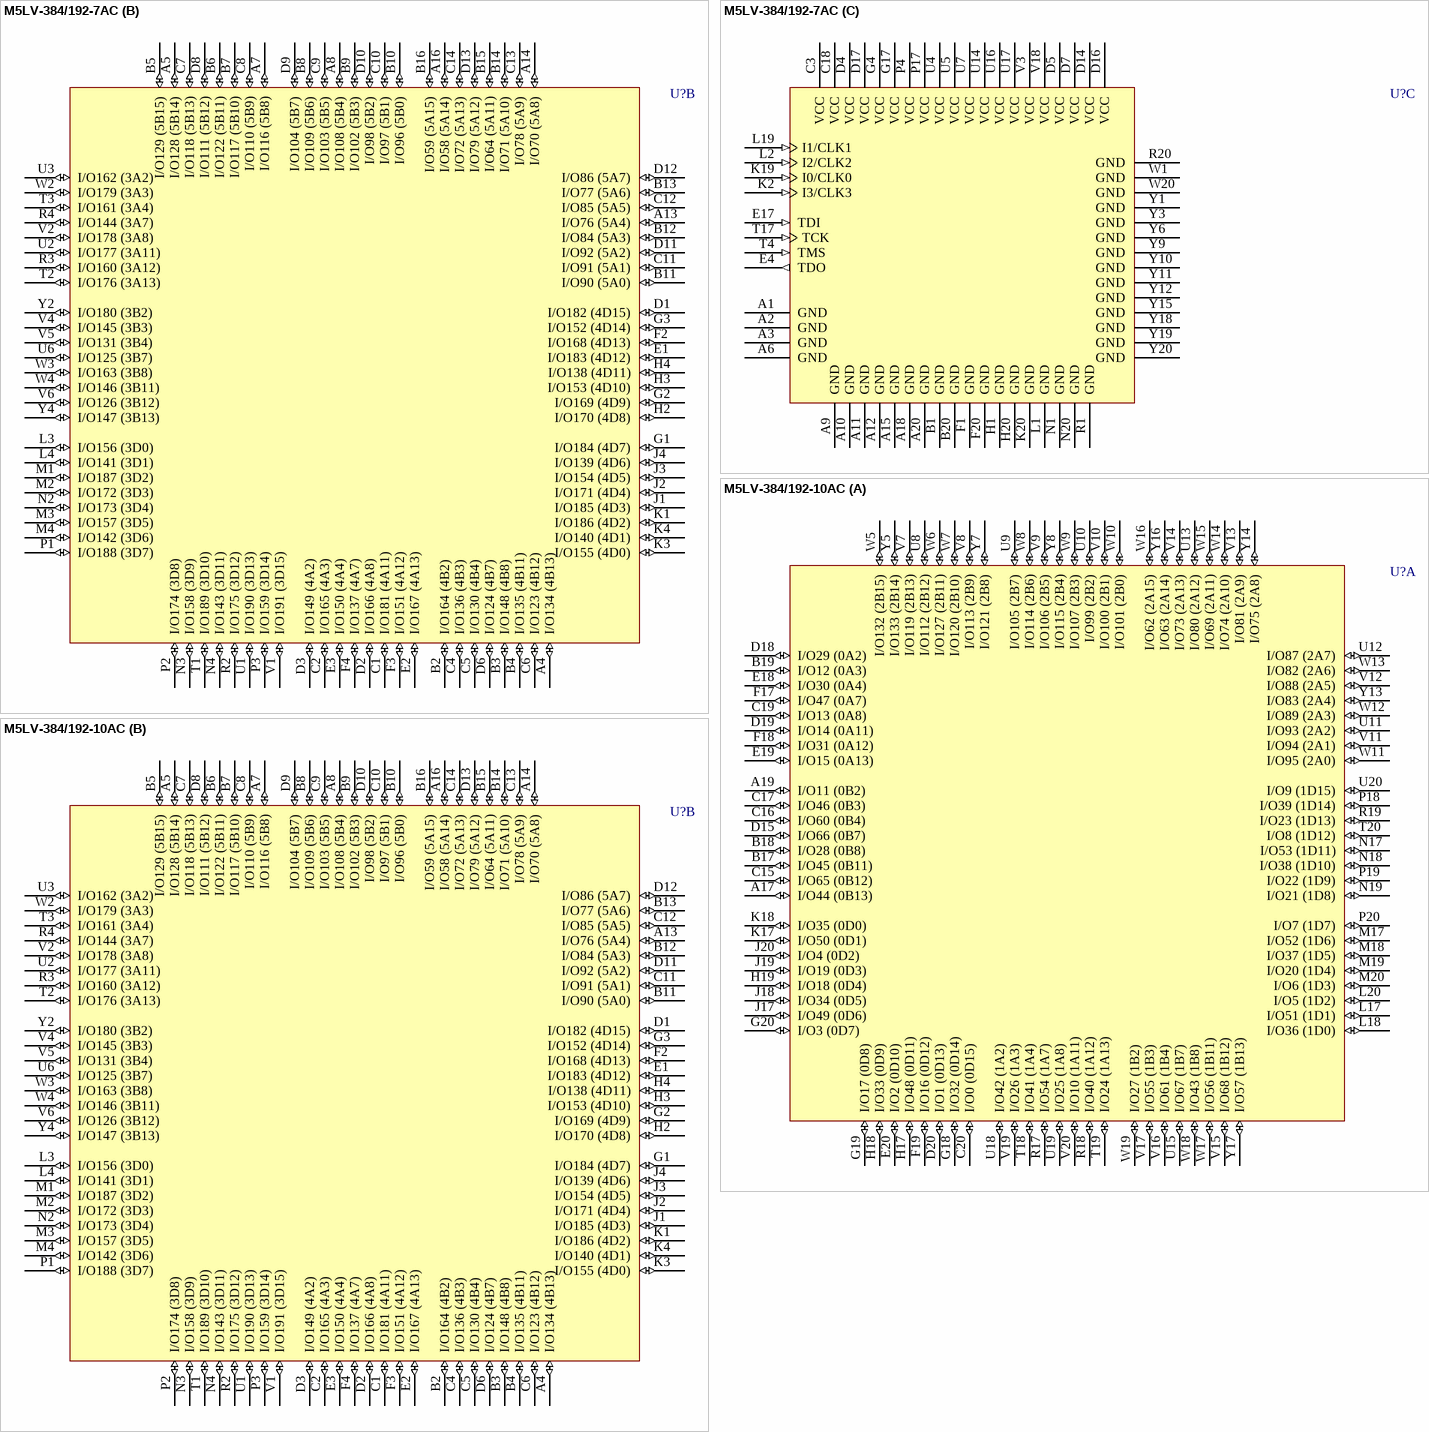
[diagram p252: symbols M5LV-384/192-7AC to M5LV-384/192-10AC]